# Altium integrated library Lattice CPLD ispMACH.IntLib: 663 symbols (part 33 of 48)
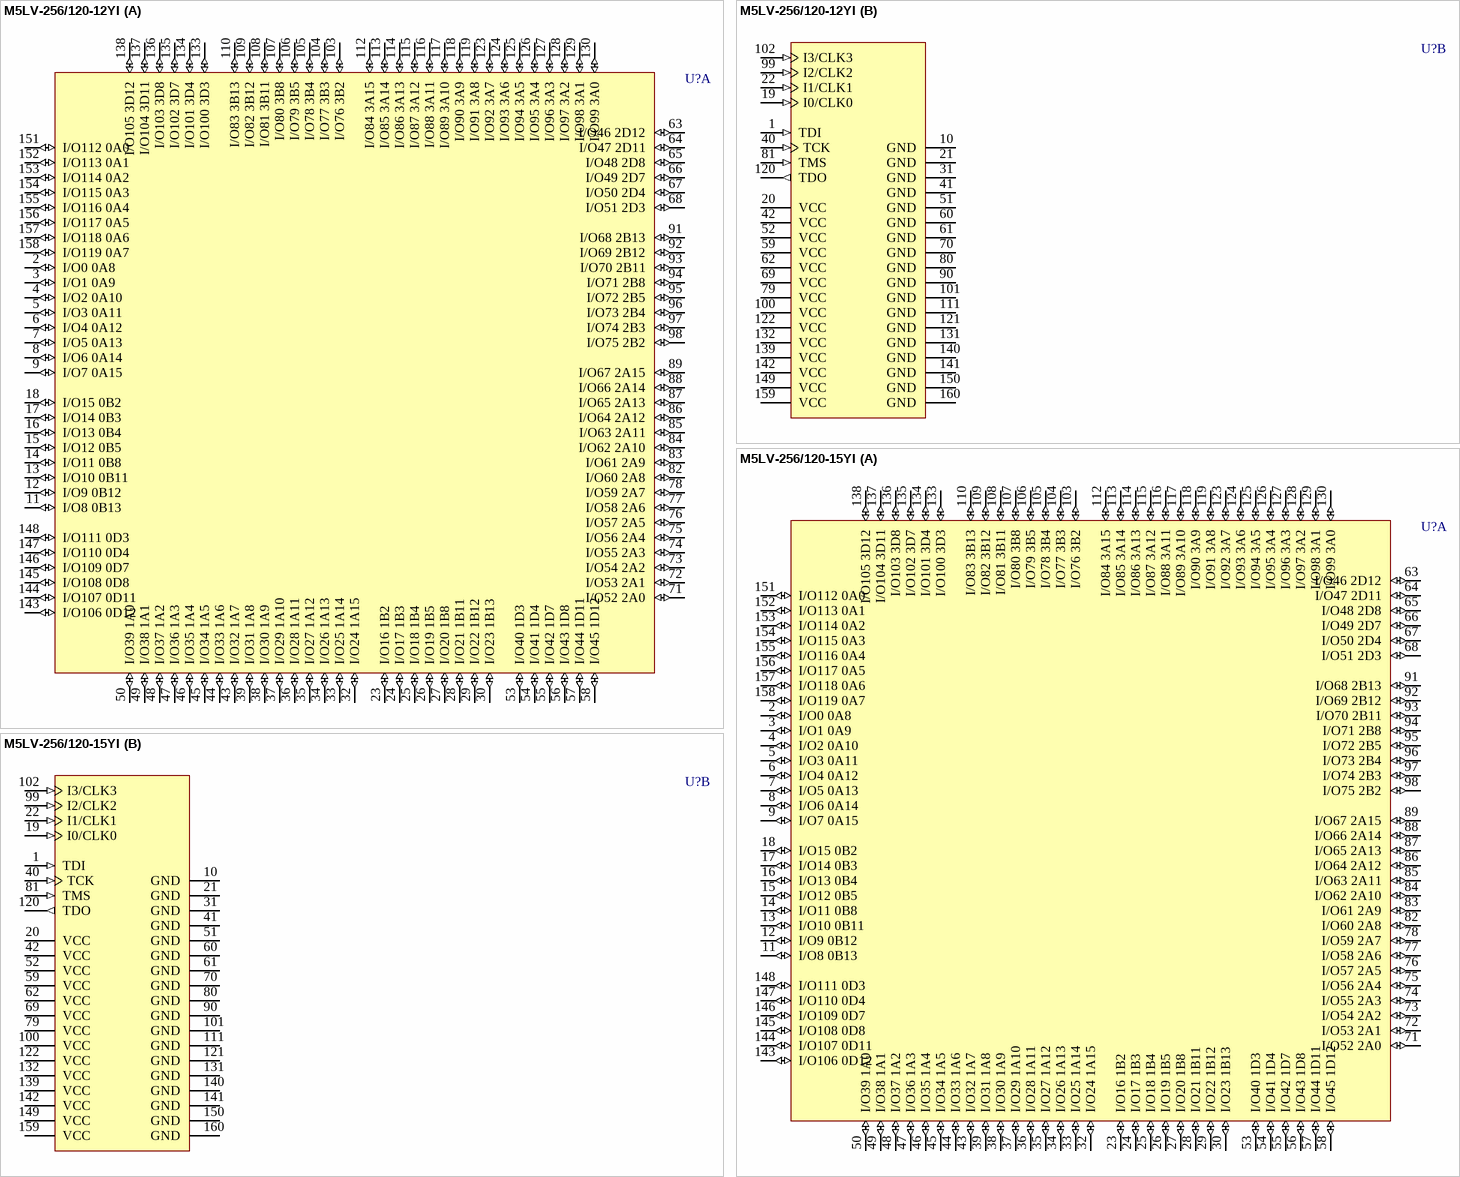
[diagram p338: symbols M5LV-256/120-12YI to M5LV-256/120-15YI]

## M5LV-256/120-12YI
designator U?
High-Density and High-I/O Complex PLD; Published: 23-Sep-2002; LatestRevisionDate: 13-Apr-2006; LatestRevisionNote: IPC-7351 Footprint Added.; DatasheetVersion: Sep-2000; PackageVersion: pkg_32, Aug-2005; PackageReference: PQFP160; Publisher: Altium Limited; PackageDescription: 160-Pin Quad Flat Pack 0.65 mm Pitch; Code_IPC: QFP65P3120X3120-160; ComponentLink1Description: Manufacturer Link; ComponentLink1URL: http://www.latticesemi.com/products/mature/index.cfm; ComponentLink2Description: Datasheet; ComponentLink2URL: http://www.latticesemi.com/lit/docs/datasheets/cpld/mach5.pdf
footprint PQFP160_N (QFP, 160-Leads, Body 28 x 28mm, Pitch 0.65mm, IPC Medium Density)
footprint PQFP160_L (QFP, 160-Leads, Body 28 x 28mm, Pitch 0.65mm, IPC High Density)
footprint PQFP160_M (QFP, 160-Leads, Body 28 x 28mm, Pitch 0.65mm, IPC Low Density)
3D model M5LV-PQFP160 (160-Pin Quad Flat Pack 0.65 mm Pitch)
part A pins: 2 I/O0 0A8 (io), 3 I/O1 0A9 (io), 4 I/O2 0A10 (io), 5 I/O3 0A11 (io), 6 I/O4 0A12 (io), 7 I/O5 0A13 (io), 8 I/O6 0A14 (io), 9 I/O7 0A15 (io), 11 I/O8 0B13 (io), 12 I/O9 0B12 (io), 13 I/O10 0B11 (io), 14 I/O11 0B8 (io), 15 I/O12 0B5 (io), 16 I/O13 0B4 (io), 17 I/O14 0B3 (io), 18 I/O15 0B2 (io), 23 I/O16 1B2 (io), 24 I/O17 1B3 (io), 25 I/O18 1B4 (io), 26 I/O19 1B5 (io), 27 I/O20 1B8 (io), 28 I/O21 1B11 (io), 29 I/O22 1B12 (io), 30 I/O23 1B13 (io), 32 I/O24 1A15 (io), 33 I/O25 1A14 (io), 34 I/O26 1A13 (io), 35 I/O27 1A12 (io), 36 I/O28 1A11 (io), 37 I/O29 1A10 (io), 38 I/O30 1A9 (io), 39 I/O31 1A8 (io), 43 I/O32 1A7 (io), 44 I/O33 1A6 (io), 45 I/O34 1A5 (io), 46 I/O35 1A4 (io), 47 I/O36 1A3 (io), 48 I/O37 1A2 (io), 49 I/O38 1A1 (io), 50 I/O39 1A0 (io), 53 I/O40 1D3 (io), 54 I/O41 1D4 (io), 55 I/O42 1D7 (io), 56 I/O43 1D8 (io), 57 I/O44 1D11 (io), 58 I/O45 1D12 (io), 63 I/O46 2D12 (io), 64 I/O47 2D11 (io), 65 I/O48 2D8 (io), 66 I/O49 2D7 (io), 67 I/O50 2D4 (io), 68 I/O51 2D3 (io), 71 I/O52 2A0 (io), 72 I/O53 2A1 (io), 73 I/O54 2A2 (io), 74 I/O55 2A3 (io), 75 I/O56 2A4 (io), 76 I/O57 2A5 (io), 77 I/O58 2A6 (io), 78 I/O59 2A7 (io), 82 I/O60 2A8 (io), 83 I/O61 2A9 (io), 84 I/O62 2A10 (io), 85 I/O63 2A11 (io), 86 I/O64 2A12 (io), 87 I/O65 2A13 (io), 88 I/O66 2A14 (io), 89 I/O67 2A15 (io), 91 I/O68 2B13 (io), 92 I/O69 2B12 (io), 93 I/O70 2B11 (io), 94 I/O71 2B8 (io), 95 I/O72 2B5 (io), 96 I/O73 2B4 (io), 97 I/O74 2B3 (io), 98 I/O75 2B2 (io), 103 I/O76 3B2 (io), 104 I/O77 3B3 (io), 105 I/O78 3B4 (io), 106 I/O79 3B5 (io), 107 I/O80 3B8 (io), 108 I/O81 3B11 (io), 109 I/O82 3B12 (io), 110 I/O83 3B13 (io), 112 I/O84 3A15 (io), 113 I/O85 3A14 (io), 114 I/O86 3A13 (io), 115 I/O87 3A12 (io), 116 I/O88 3A11 (io), 117 I/O89 3A10 (io), 118 I/O90 3A9 (io), 119 I/O91 3A8 (io), 123 I/O92 3A7 (io), 124 I/O93 3A6 (io), 125 I/O94 3A5 (io), 126 I/O95 3A4 (io), 127 I/O96 3A3 (io), 128 I/O97 3A2 (io), 129 I/O98 3A1 (io), 130 I/O99 3A0 (io), 133 I/O100 3D3 (io), 134 I/O101 3D4 (io), 135 I/O102 3D7 (io), 136 I/O103 3D8 (io), 137 I/O104 3D11 (io), 138 I/O105 3D12 (io), 143 I/O106 0D12 (io), 144 I/O107 0D11 (io), 145 I/O108 0D8 (io), 146 I/O109 0D7 (io), 147 I/O110 0D4 (io), 148 I/O111 0D3 (io), 151 I/O112 0A0 (io), 152 I/O113 0A1 (io), 153 I/O114 0A2 (io), 154 I/O115 0A3 (io), 155 I/O116 0A4 (io), 156 I/O117 0A5 (io), 157 I/O118 0A6 (io), 158 I/O119 0A7 (io)
part B pins: 1 TDI (in), 10 GND (power), 19 I0/CLK0 (in), 20 VCC (power), 21 GND (power), 22 I1/CLK1 (in), 31 GND (power), 40 TCK (in), 41 GND (power), 42 VCC (power), 51 GND (power), 52 VCC (power), 59 VCC (power), 60 GND (power), 61 GND (power), 62 VCC (power), 69 VCC (power), 70 GND (power), 79 VCC (power), 80 GND (power), 81 TMS (in), 90 GND (power), 99 I2/CLK2 (in), 100 VCC (power), 101 GND (power), 102 I3/CLK3 (in), 111 GND (power), 120 TDO (out), 121 GND (power), 122 VCC (power), 131 GND (power), 132 VCC (power), 139 VCC (power), 140 GND (power), 141 GND (power), 142 VCC (power), 149 VCC (power), 150 GND (power), 159 VCC (power), 160 GND (power)

## M5LV-256/120-15YI
designator U?
High-Density and High-I/O Complex PLD; Published: 23-Sep-2002; LatestRevisionDate: 13-Apr-2006; LatestRevisionNote: IPC-7351 Footprint Added.; DatasheetVersion: Sep-2000; PackageVersion: pkg_32, Aug-2005; PackageReference: PQFP160; Publisher: Altium Limited; PackageDescription: 160-Pin Quad Flat Pack 0.65 mm Pitch; Code_IPC: QFP65P3120X3120-160; ComponentLink1Description: Manufacturer Link; ComponentLink1URL: http://www.latticesemi.com/products/mature/index.cfm; ComponentLink2Description: Datasheet; ComponentLink2URL: http://www.latticesemi.com/lit/docs/datasheets/cpld/mach5.pdf
footprint PQFP160_N (QFP, 160-Leads, Body 28 x 28mm, Pitch 0.65mm, IPC Medium Density)
footprint PQFP160_L (QFP, 160-Leads, Body 28 x 28mm, Pitch 0.65mm, IPC High Density)
footprint PQFP160_M (QFP, 160-Leads, Body 28 x 28mm, Pitch 0.65mm, IPC Low Density)
3D model M5LV-PQFP160 (160-Pin Quad Flat Pack 0.65 mm Pitch)
part A pins: 2 I/O0 0A8 (io), 3 I/O1 0A9 (io), 4 I/O2 0A10 (io), 5 I/O3 0A11 (io), 6 I/O4 0A12 (io), 7 I/O5 0A13 (io), 8 I/O6 0A14 (io), 9 I/O7 0A15 (io), 11 I/O8 0B13 (io), 12 I/O9 0B12 (io), 13 I/O10 0B11 (io), 14 I/O11 0B8 (io), 15 I/O12 0B5 (io), 16 I/O13 0B4 (io), 17 I/O14 0B3 (io), 18 I/O15 0B2 (io), 23 I/O16 1B2 (io), 24 I/O17 1B3 (io), 25 I/O18 1B4 (io), 26 I/O19 1B5 (io), 27 I/O20 1B8 (io), 28 I/O21 1B11 (io), 29 I/O22 1B12 (io), 30 I/O23 1B13 (io), 32 I/O24 1A15 (io), 33 I/O25 1A14 (io), 34 I/O26 1A13 (io), 35 I/O27 1A12 (io), 36 I/O28 1A11 (io), 37 I/O29 1A10 (io), 38 I/O30 1A9 (io), 39 I/O31 1A8 (io), 43 I/O32 1A7 (io), 44 I/O33 1A6 (io), 45 I/O34 1A5 (io), 46 I/O35 1A4 (io), 47 I/O36 1A3 (io), 48 I/O37 1A2 (io), 49 I/O38 1A1 (io), 50 I/O39 1A0 (io), 53 I/O40 1D3 (io), 54 I/O41 1D4 (io), 55 I/O42 1D7 (io), 56 I/O43 1D8 (io), 57 I/O44 1D11 (io), 58 I/O45 1D12 (io), 63 I/O46 2D12 (io), 64 I/O47 2D11 (io), 65 I/O48 2D8 (io), 66 I/O49 2D7 (io), 67 I/O50 2D4 (io), 68 I/O51 2D3 (io), 71 I/O52 2A0 (io), 72 I/O53 2A1 (io), 73 I/O54 2A2 (io), 74 I/O55 2A3 (io), 75 I/O56 2A4 (io), 76 I/O57 2A5 (io), 77 I/O58 2A6 (io), 78 I/O59 2A7 (io), 82 I/O60 2A8 (io), 83 I/O61 2A9 (io), 84 I/O62 2A10 (io), 85 I/O63 2A11 (io), 86 I/O64 2A12 (io), 87 I/O65 2A13 (io), 88 I/O66 2A14 (io), 89 I/O67 2A15 (io), 91 I/O68 2B13 (io), 92 I/O69 2B12 (io), 93 I/O70 2B11 (io), 94 I/O71 2B8 (io), 95 I/O72 2B5 (io), 96 I/O73 2B4 (io), 97 I/O74 2B3 (io), 98 I/O75 2B2 (io), 103 I/O76 3B2 (io), 104 I/O77 3B3 (io), 105 I/O78 3B4 (io), 106 I/O79 3B5 (io), 107 I/O80 3B8 (io), 108 I/O81 3B11 (io), 109 I/O82 3B12 (io), 110 I/O83 3B13 (io), 112 I/O84 3A15 (io), 113 I/O85 3A14 (io), 114 I/O86 3A13 (io), 115 I/O87 3A12 (io), 116 I/O88 3A11 (io), 117 I/O89 3A10 (io), 118 I/O90 3A9 (io), 119 I/O91 3A8 (io), 123 I/O92 3A7 (io), 124 I/O93 3A6 (io), 125 I/O94 3A5 (io), 126 I/O95 3A4 (io), 127 I/O96 3A3 (io), 128 I/O97 3A2 (io), 129 I/O98 3A1 (io), 130 I/O99 3A0 (io), 133 I/O100 3D3 (io), 134 I/O101 3D4 (io), 135 I/O102 3D7 (io), 136 I/O103 3D8 (io), 137 I/O104 3D11 (io), 138 I/O105 3D12 (io), 143 I/O106 0D12 (io), 144 I/O107 0D11 (io), 145 I/O108 0D8 (io), 146 I/O109 0D7 (io), 147 I/O110 0D4 (io), 148 I/O111 0D3 (io), 151 I/O112 0A0 (io), 152 I/O113 0A1 (io), 153 I/O114 0A2 (io), 154 I/O115 0A3 (io), 155 I/O116 0A4 (io), 156 I/O117 0A5 (io), 157 I/O118 0A6 (io), 158 I/O119 0A7 (io)
part B pins: 1 TDI (in), 10 GND (power), 19 I0/CLK0 (in), 20 VCC (power), 21 GND (power), 22 I1/CLK1 (in), 31 GND (power), 40 TCK (in), 41 GND (power), 42 VCC (power), 51 GND (power), 52 VCC (power), 59 VCC (power), 60 GND (power), 61 GND (power), 62 VCC (power), 69 VCC (power), 70 GND (power), 79 VCC (power), 80 GND (power), 81 TMS (in), 90 GND (power), 99 I2/CLK2 (in), 100 VCC (power), 101 GND (power), 102 I3/CLK3 (in), 111 GND (power), 120 TDO (out), 121 GND (power), 122 VCC (power), 131 GND (power), 132 VCC (power), 139 VCC (power), 140 GND (power), 141 GND (power), 142 VCC (power), 149 VCC (power), 150 GND (power), 159 VCC (power), 160 GND (power)

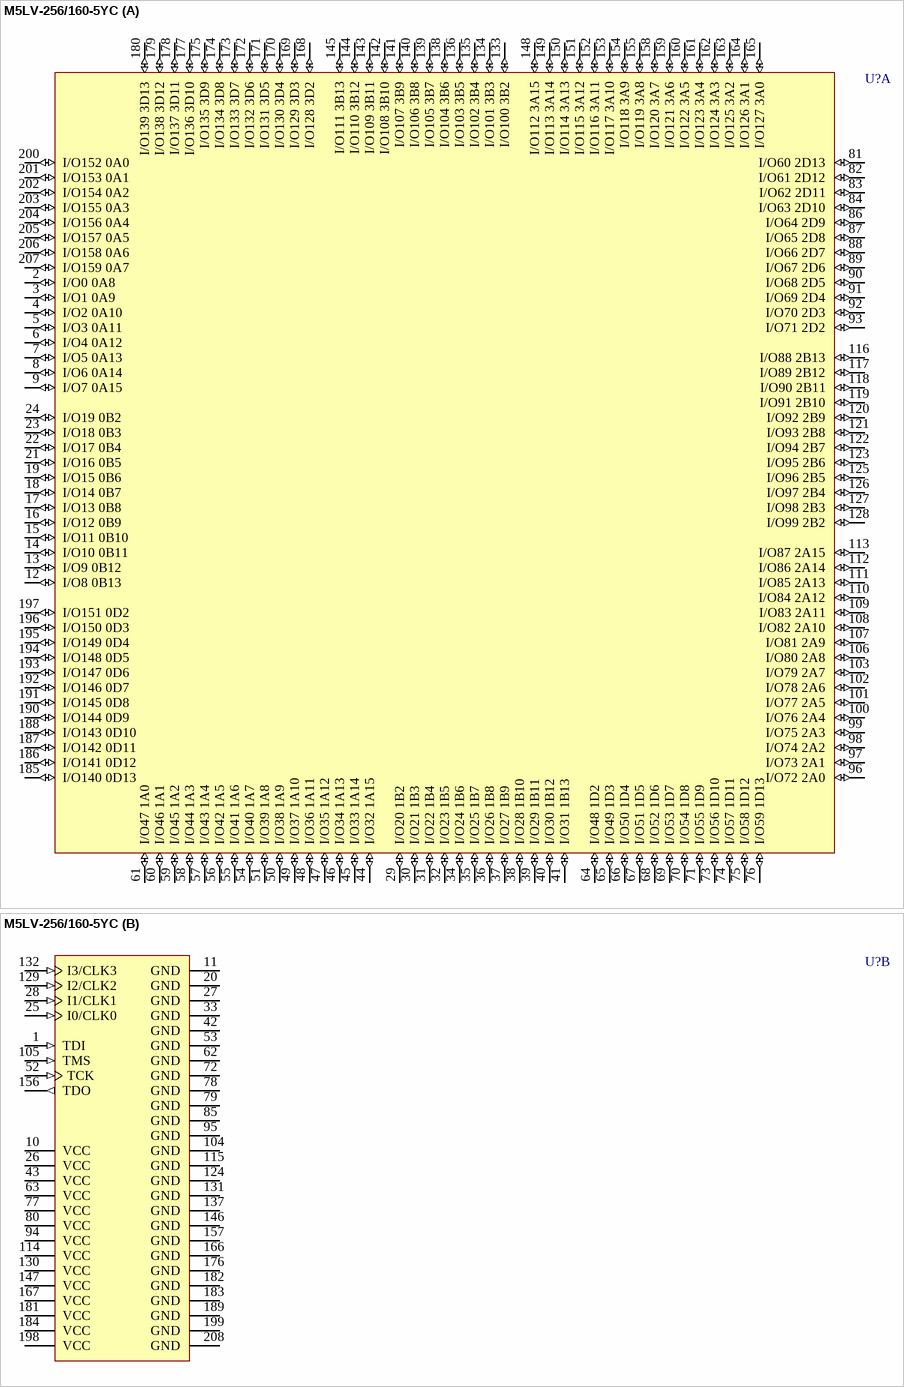
[diagram p191: symbol M5LV-256/160-5YC]

## M5LV-256/160-5YC
designator U?
High-Density and High-I/O Complex PLD; Published: 23-Sep-2002; LatestRevisionDate: 13-Apr-2006; LatestRevisionNote: IPC-7351 Footprint Added.; DatasheetVersion: Sep-2000; PackageVersion: pkg_32, Aug-2005; PackageReference: PQFP208; Publisher: Altium Limited; PackageDescription: 208-Pin Plastic Quad Flat Pack (PQFP208); Code_JEDEC: MO-143-FAI; ComponentLink1Description: Manufacturer Link; ComponentLink1URL: http://www.latticesemi.com/products/mature/index.cfm; ComponentLink2Description: Datasheet; ComponentLink2URL: http://www.latticesemi.com/lit/docs/datasheets/cpld/mach5.pdf
footprint PQFP208_N (Shrink QFP, 208-Leads, Body 28x28mm, Pitch 0.5mm, IPC Medium Density)
footprint PQFP208_L (Shrink QFP, 208-Leads, Body 28x28mm, Pitch 0.5mm, IPC High Density)
footprint PQFP208_M (Shrink QFP, 208-Leads, Body 28x28mm, Pitch 0.5mm, IPC Low Density)
3D model M5LV-PQFP208 (208-Pin Plastic Quad Flat Pack (PQFP208))
part A pins: 2 I/O0 0A8 (io), 3 I/O1 0A9 (io), 4 I/O2 0A10 (io), 5 I/O3 0A11 (io), 6 I/O4 0A12 (io), 7 I/O5 0A13 (io), 8 I/O6 0A14 (io), 9 I/O7 0A15 (io), 12 I/O8 0B13 (io), 13 I/O9 0B12 (io), 14 I/O10 0B11 (io), 15 I/O11 0B10 (io), 16 I/O12 0B9 (io), 17 I/O13 0B8 (io), 18 I/O14 0B7 (io), 19 I/O15 0B6 (io), 21 I/O16 0B5 (io), 22 I/O17 0B4 (io), 23 I/O18 0B3 (io), 24 I/O19 0B2 (io), 29 I/O20 1B2 (io), 30 I/O21 1B3 (io), 31 I/O22 1B4 (io), 32 I/O23 1B5 (io), 34 I/O24 1B6 (io), 35 I/O25 1B7 (io), 36 I/O26 1B8 (io), 37 I/O27 1B9 (io), 38 I/O28 1B10 (io), 39 I/O29 1B11 (io), 40 I/O30 1B12 (io), 41 I/O31 1B13 (io), 44 I/O32 1A15 (io), 45 I/O33 1A14 (io), 46 I/O34 1A13 (io), 47 I/O35 1A12 (io), 48 I/O36 1A11 (io), 49 I/O37 1A10 (io), 50 I/O38 1A9 (io), 51 I/O39 1A8 (io), 54 I/O40 1A7 (io), 55 I/O41 1A6 (io), 56 I/O42 1A5 (io), 57 I/O43 1A4 (io), 58 I/O44 1A3 (io), 59 I/O45 1A2 (io), 60 I/O46 1A1 (io), 61 I/O47 1A0 (io), 64 I/O48 1D2 (io), 65 I/O49 1D3 (io), 66 I/O50 1D4 (io), 67 I/O51 1D5 (io), 68 I/O52 1D6 (io), 69 I/O53 1D7 (io), 70 I/O54 1D8 (io), 71 I/O55 1D9 (io), 73 I/O56 1D10 (io), 74 I/O57 1D11 (io), 75 I/O58 1D12 (io), 76 I/O59 1D13 (io), 81 I/O60 2D13 (io), 82 I/O61 2D12 (io), 83 I/O62 2D11 (io), 84 I/O63 2D10 (io), 86 I/O64 2D9 (io), 87 I/O65 2D8 (io), 88 I/O66 2D7 (io), 89 I/O67 2D6 (io), 90 I/O68 2D5 (io), 91 I/O69 2D4 (io), 92 I/O70 2D3 (io), 93 I/O71 2D2 (io), 96 I/O72 2A0 (io), 97 I/O73 2A1 (io), 98 I/O74 2A2 (io), 99 I/O75 2A3 (io), 100 I/O76 2A4 (io), 101 I/O77 2A5 (io), 102 I/O78 2A6 (io), 103 I/O79 2A7 (io), 106 I/O80 2A8 (io), 107 I/O81 2A9 (io), 108 I/O82 2A10 (io), 109 I/O83 2A11 (io), 110 I/O84 2A12 (io), 111 I/O85 2A13 (io), 112 I/O86 2A14 (io), 113 I/O87 2A15 (io), 116 I/O88 2B13 (io), 117 I/O89 2B12 (io), 118 I/O90 2B11 (io), 119 I/O91 2B10 (io), 120 I/O92 2B9 (io), 121 I/O93 2B8 (io), 122 I/O94 2B7 (io), 123 I/O95 2B6 (io), 125 I/O96 2B5 (io), 126 I/O97 2B4 (io), 127 I/O98 2B3 (io), 128 I/O99 2B2 (io), 133 I/O100 3B2 (io), 134 I/O101 3B3 (io), 135 I/O102 3B4 (io), 136 I/O103 3B5 (io), 138 I/O104 3B6 (io), 139 I/O105 3B7 (io), 140 I/O106 3B8 (io), 141 I/O107 3B9 (io), 142 I/O108 3B10 (io), 143 I/O109 3B11 (io), 144 I/O110 3B12 (io), 145 I/O111 3B13 (io), 148 I/O112 3A15 (io), 149 I/O113 3A14 (io), 150 I/O114 3A13 (io), 151 I/O115 3A12 (io), 152 I/O116 3A11 (io), 153 I/O117 3A10 (io), 154 I/O118 3A9 (io), 155 I/O119 3A8 (io), 158 I/O120 3A7 (io), 159 I/O121 3A6 (io), 160 I/O122 3A5 (io), 161 I/O123 3A4 (io), 162 I/O124 3A3 (io), 163 I/O125 3A2 (io), 164 I/O126 3A1 (io), 165 I/O127 3A0 (io), 168 I/O128 3D2 (io), 169 I/O129 3D3 (io), 170 I/O130 3D4 (io), 171 I/O131 3D5 (io), 172 I/O132 3D6 (io), 173 I/O133 3D7 (io), 174 I/O134 3D8 (io), 175 I/O135 3D9 (io), 177 I/O136 3D10 (io), 178 I/O137 3D11 (io), 179 I/O138 3D12 (io), 180 I/O139 3D13 (io), 185 I/O140 0D13 (io), 186 I/O141 0D12 (io), 187 I/O142 0D11 (io), 188 I/O143 0D10 (io), 190 I/O144 0D9 (io), 191 I/O145 0D8 (io), 192 I/O146 0D7 (io), 193 I/O147 0D6 (io), 194 I/O148 0D5 (io), 195 I/O149 0D4 (io), 196 I/O150 0D3 (io), 197 I/O151 0D2 (io), 200 I/O152 0A0 (io), 201 I/O153 0A1 (io), 202 I/O154 0A2 (io), 203 I/O155 0A3 (io), 204 I/O156 0A4 (io), 205 I/O157 0A5 (io), 206 I/O158 0A6 (io), 207 I/O159 0A7 (io)
part B pins: 1 TDI (in), 10 VCC (power), 11 GND (power), 20 GND (power), 25 I0/CLK0 (in), 26 VCC (power), 27 GND (power), 28 I1/CLK1 (in), 33 GND (power), 42 GND (power), 43 VCC (power), 52 TCK (in), 53 GND (power), 62 GND (power), 63 VCC (power), 72 GND (power), 77 VCC (power), 78 GND (power), 79 GND (power), 80 VCC (power), 85 GND (power), 94 VCC (power), 95 GND (power), 104 GND (power), 105 TMS (in), 114 VCC (power), 115 GND (power), 124 GND (power), 129 I2/CLK2 (in), 130 VCC (power), 131 GND (power), 132 I3/CLK3 (in), 137 GND (power), 146 GND (power), 147 VCC (power), 156 TDO (out), 157 GND (power), 166 GND (power), 167 VCC (power), 176 GND (power), 181 VCC (power), 182 GND (power), 183 GND (power), 184 VCC (power), 189 GND (power), 198 VCC (power), 199 GND (power), 208 GND (power)

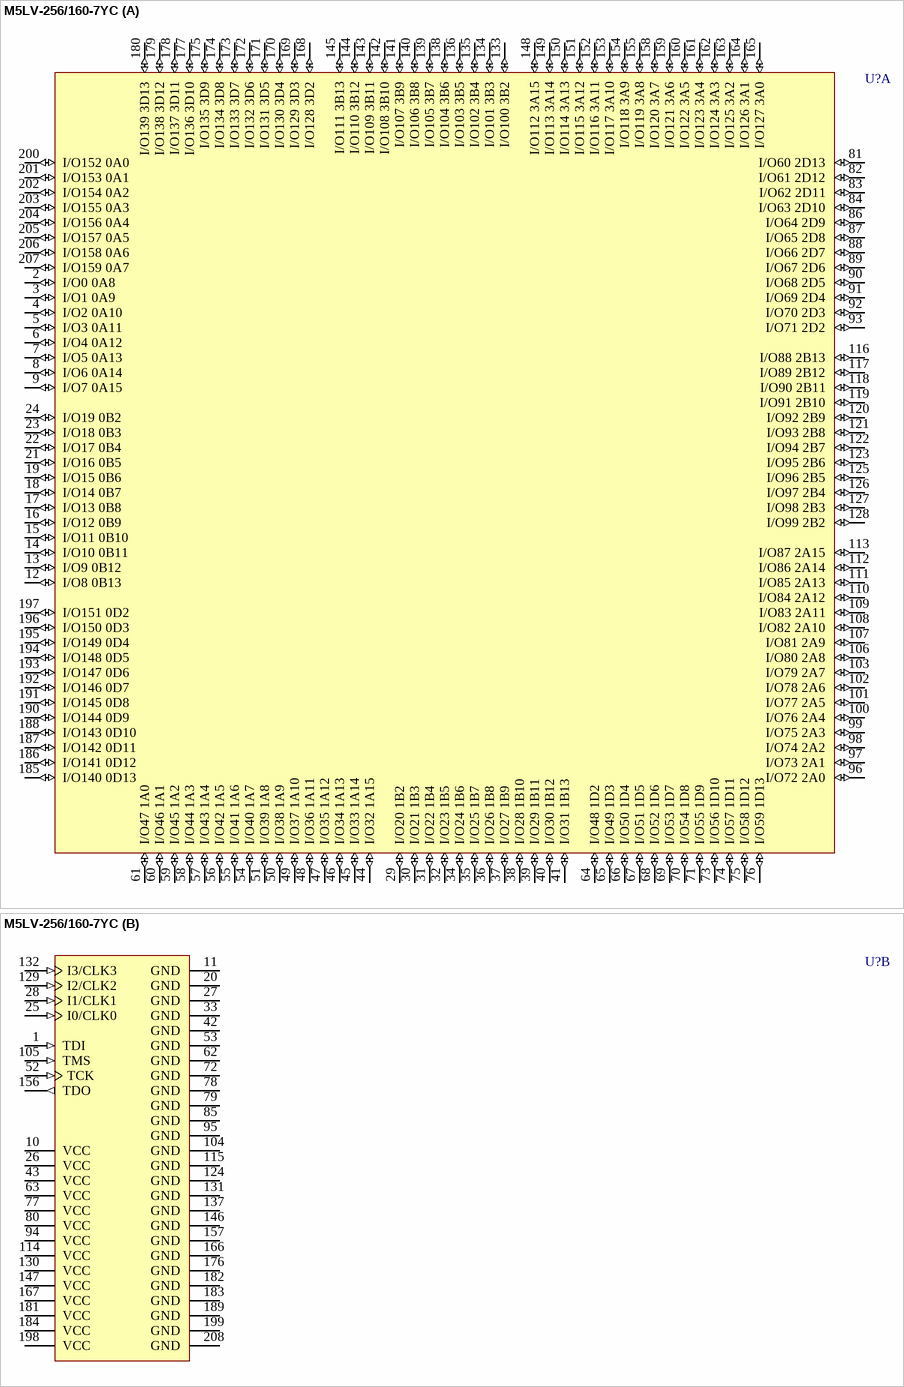
[diagram p192: symbol M5LV-256/160-7YC]

## M5LV-256/160-7YC
designator U?
High-Density and High-I/O Complex PLD; Published: 23-Sep-2002; LatestRevisionDate: 13-Apr-2006; LatestRevisionNote: IPC-7351 Footprint Added.; DatasheetVersion: Sep-2000; PackageVersion: pkg_32, Aug-2005; PackageReference: PQFP208; Publisher: Altium Limited; PackageDescription: 208-Pin Plastic Quad Flat Pack (PQFP208); Code_JEDEC: MO-143-FAI; ComponentLink1Description: Manufacturer Link; ComponentLink1URL: http://www.latticesemi.com/products/mature/index.cfm; ComponentLink2Description: Datasheet; ComponentLink2URL: http://www.latticesemi.com/lit/docs/datasheets/cpld/mach5.pdf
footprint PQFP208_N (Shrink QFP, 208-Leads, Body 28x28mm, Pitch 0.5mm, IPC Medium Density)
footprint PQFP208_L (Shrink QFP, 208-Leads, Body 28x28mm, Pitch 0.5mm, IPC High Density)
footprint PQFP208_M (Shrink QFP, 208-Leads, Body 28x28mm, Pitch 0.5mm, IPC Low Density)
3D model M5LV-PQFP208 (208-Pin Plastic Quad Flat Pack (PQFP208))
part A pins: 2 I/O0 0A8 (io), 3 I/O1 0A9 (io), 4 I/O2 0A10 (io), 5 I/O3 0A11 (io), 6 I/O4 0A12 (io), 7 I/O5 0A13 (io), 8 I/O6 0A14 (io), 9 I/O7 0A15 (io), 12 I/O8 0B13 (io), 13 I/O9 0B12 (io), 14 I/O10 0B11 (io), 15 I/O11 0B10 (io), 16 I/O12 0B9 (io), 17 I/O13 0B8 (io), 18 I/O14 0B7 (io), 19 I/O15 0B6 (io), 21 I/O16 0B5 (io), 22 I/O17 0B4 (io), 23 I/O18 0B3 (io), 24 I/O19 0B2 (io), 29 I/O20 1B2 (io), 30 I/O21 1B3 (io), 31 I/O22 1B4 (io), 32 I/O23 1B5 (io), 34 I/O24 1B6 (io), 35 I/O25 1B7 (io), 36 I/O26 1B8 (io), 37 I/O27 1B9 (io), 38 I/O28 1B10 (io), 39 I/O29 1B11 (io), 40 I/O30 1B12 (io), 41 I/O31 1B13 (io), 44 I/O32 1A15 (io), 45 I/O33 1A14 (io), 46 I/O34 1A13 (io), 47 I/O35 1A12 (io), 48 I/O36 1A11 (io), 49 I/O37 1A10 (io), 50 I/O38 1A9 (io), 51 I/O39 1A8 (io), 54 I/O40 1A7 (io), 55 I/O41 1A6 (io), 56 I/O42 1A5 (io), 57 I/O43 1A4 (io), 58 I/O44 1A3 (io), 59 I/O45 1A2 (io), 60 I/O46 1A1 (io), 61 I/O47 1A0 (io), 64 I/O48 1D2 (io), 65 I/O49 1D3 (io), 66 I/O50 1D4 (io), 67 I/O51 1D5 (io), 68 I/O52 1D6 (io), 69 I/O53 1D7 (io), 70 I/O54 1D8 (io), 71 I/O55 1D9 (io), 73 I/O56 1D10 (io), 74 I/O57 1D11 (io), 75 I/O58 1D12 (io), 76 I/O59 1D13 (io), 81 I/O60 2D13 (io), 82 I/O61 2D12 (io), 83 I/O62 2D11 (io), 84 I/O63 2D10 (io), 86 I/O64 2D9 (io), 87 I/O65 2D8 (io), 88 I/O66 2D7 (io), 89 I/O67 2D6 (io), 90 I/O68 2D5 (io), 91 I/O69 2D4 (io), 92 I/O70 2D3 (io), 93 I/O71 2D2 (io), 96 I/O72 2A0 (io), 97 I/O73 2A1 (io), 98 I/O74 2A2 (io), 99 I/O75 2A3 (io), 100 I/O76 2A4 (io), 101 I/O77 2A5 (io), 102 I/O78 2A6 (io), 103 I/O79 2A7 (io), 106 I/O80 2A8 (io), 107 I/O81 2A9 (io), 108 I/O82 2A10 (io), 109 I/O83 2A11 (io), 110 I/O84 2A12 (io), 111 I/O85 2A13 (io), 112 I/O86 2A14 (io), 113 I/O87 2A15 (io), 116 I/O88 2B13 (io), 117 I/O89 2B12 (io), 118 I/O90 2B11 (io), 119 I/O91 2B10 (io), 120 I/O92 2B9 (io), 121 I/O93 2B8 (io), 122 I/O94 2B7 (io), 123 I/O95 2B6 (io), 125 I/O96 2B5 (io), 126 I/O97 2B4 (io), 127 I/O98 2B3 (io), 128 I/O99 2B2 (io), 133 I/O100 3B2 (io), 134 I/O101 3B3 (io), 135 I/O102 3B4 (io), 136 I/O103 3B5 (io), 138 I/O104 3B6 (io), 139 I/O105 3B7 (io), 140 I/O106 3B8 (io), 141 I/O107 3B9 (io), 142 I/O108 3B10 (io), 143 I/O109 3B11 (io), 144 I/O110 3B12 (io), 145 I/O111 3B13 (io), 148 I/O112 3A15 (io), 149 I/O113 3A14 (io), 150 I/O114 3A13 (io), 151 I/O115 3A12 (io), 152 I/O116 3A11 (io), 153 I/O117 3A10 (io), 154 I/O118 3A9 (io), 155 I/O119 3A8 (io), 158 I/O120 3A7 (io), 159 I/O121 3A6 (io), 160 I/O122 3A5 (io), 161 I/O123 3A4 (io), 162 I/O124 3A3 (io), 163 I/O125 3A2 (io), 164 I/O126 3A1 (io), 165 I/O127 3A0 (io), 168 I/O128 3D2 (io), 169 I/O129 3D3 (io), 170 I/O130 3D4 (io), 171 I/O131 3D5 (io), 172 I/O132 3D6 (io), 173 I/O133 3D7 (io), 174 I/O134 3D8 (io), 175 I/O135 3D9 (io), 177 I/O136 3D10 (io), 178 I/O137 3D11 (io), 179 I/O138 3D12 (io), 180 I/O139 3D13 (io), 185 I/O140 0D13 (io), 186 I/O141 0D12 (io), 187 I/O142 0D11 (io), 188 I/O143 0D10 (io), 190 I/O144 0D9 (io), 191 I/O145 0D8 (io), 192 I/O146 0D7 (io), 193 I/O147 0D6 (io), 194 I/O148 0D5 (io), 195 I/O149 0D4 (io), 196 I/O150 0D3 (io), 197 I/O151 0D2 (io), 200 I/O152 0A0 (io), 201 I/O153 0A1 (io), 202 I/O154 0A2 (io), 203 I/O155 0A3 (io), 204 I/O156 0A4 (io), 205 I/O157 0A5 (io), 206 I/O158 0A6 (io), 207 I/O159 0A7 (io)
part B pins: 1 TDI (in), 10 VCC (power), 11 GND (power), 20 GND (power), 25 I0/CLK0 (in), 26 VCC (power), 27 GND (power), 28 I1/CLK1 (in), 33 GND (power), 42 GND (power), 43 VCC (power), 52 TCK (in), 53 GND (power), 62 GND (power), 63 VCC (power), 72 GND (power), 77 VCC (power), 78 GND (power), 79 GND (power), 80 VCC (power), 85 GND (power), 94 VCC (power), 95 GND (power), 104 GND (power), 105 TMS (in), 114 VCC (power), 115 GND (power), 124 GND (power), 129 I2/CLK2 (in), 130 VCC (power), 131 GND (power), 132 I3/CLK3 (in), 137 GND (power), 146 GND (power), 147 VCC (power), 156 TDO (out), 157 GND (power), 166 GND (power), 167 VCC (power), 176 GND (power), 181 VCC (power), 182 GND (power), 183 GND (power), 184 VCC (power), 189 GND (power), 198 VCC (power), 199 GND (power), 208 GND (power)

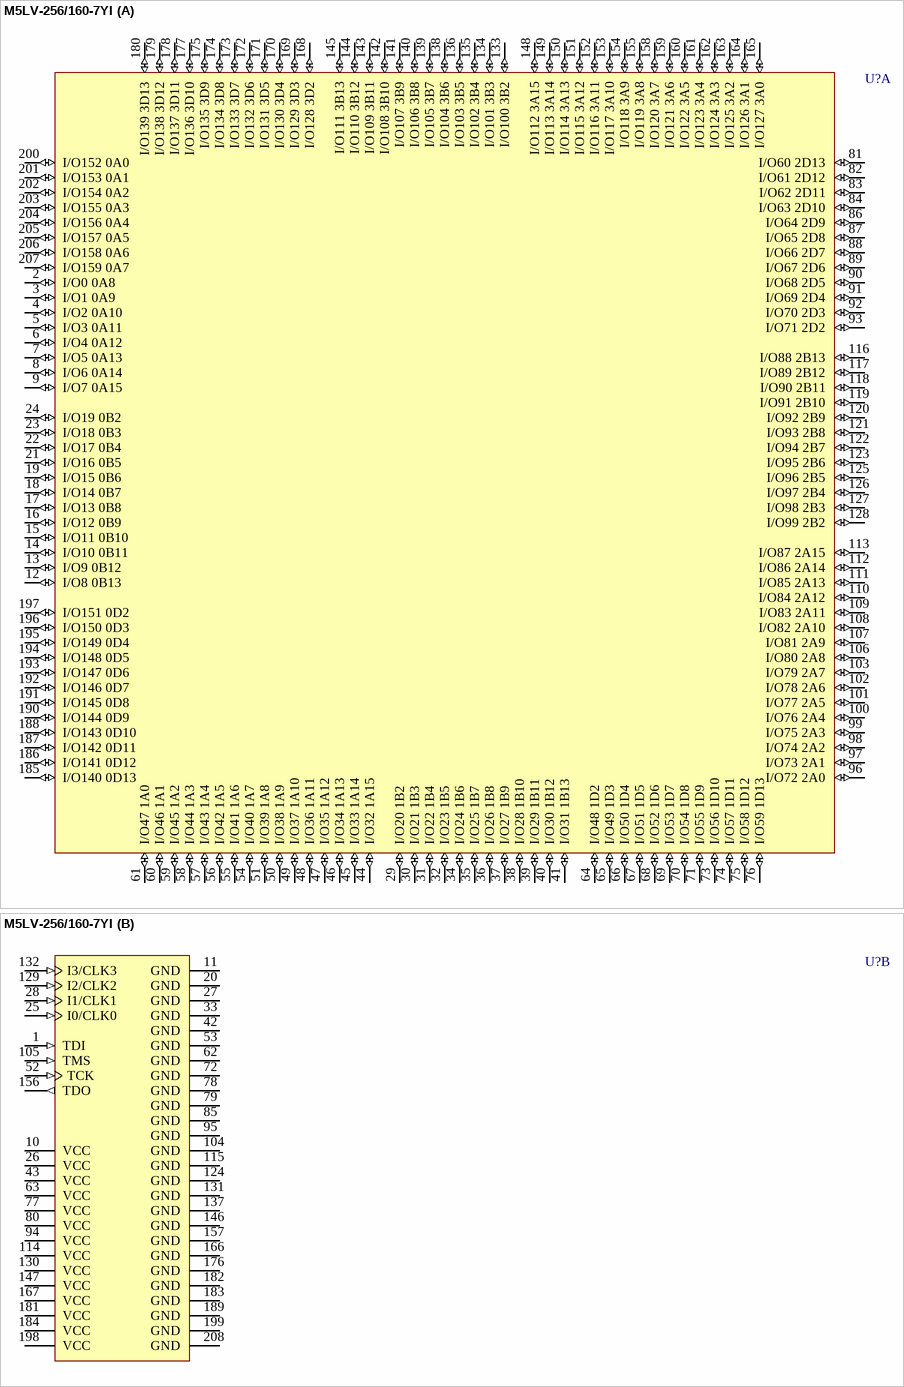
[diagram p193: symbol M5LV-256/160-7YI]

## M5LV-256/160-7YI
designator U?
High-Density and High-I/O Complex PLD; Published: 23-Sep-2002; LatestRevisionDate: 13-Apr-2006; LatestRevisionNote: IPC-7351 Footprint Added.; DatasheetVersion: Sep-2000; PackageVersion: pkg_32, Aug-2005; PackageReference: PQFP208; Publisher: Altium Limited; PackageDescription: 208-Pin Plastic Quad Flat Pack (PQFP208); Code_JEDEC: MO-143-FAI; ComponentLink1Description: Manufacturer Link; ComponentLink1URL: http://www.latticesemi.com/products/mature/index.cfm; ComponentLink2Description: Datasheet; ComponentLink2URL: http://www.latticesemi.com/lit/docs/datasheets/cpld/mach5.pdf
footprint PQFP208_N (Shrink QFP, 208-Leads, Body 28x28mm, Pitch 0.5mm, IPC Medium Density)
footprint PQFP208_L (Shrink QFP, 208-Leads, Body 28x28mm, Pitch 0.5mm, IPC High Density)
footprint PQFP208_M (Shrink QFP, 208-Leads, Body 28x28mm, Pitch 0.5mm, IPC Low Density)
3D model M5LV-PQFP208 (208-Pin Plastic Quad Flat Pack (PQFP208))
part A pins: 2 I/O0 0A8 (io), 3 I/O1 0A9 (io), 4 I/O2 0A10 (io), 5 I/O3 0A11 (io), 6 I/O4 0A12 (io), 7 I/O5 0A13 (io), 8 I/O6 0A14 (io), 9 I/O7 0A15 (io), 12 I/O8 0B13 (io), 13 I/O9 0B12 (io), 14 I/O10 0B11 (io), 15 I/O11 0B10 (io), 16 I/O12 0B9 (io), 17 I/O13 0B8 (io), 18 I/O14 0B7 (io), 19 I/O15 0B6 (io), 21 I/O16 0B5 (io), 22 I/O17 0B4 (io), 23 I/O18 0B3 (io), 24 I/O19 0B2 (io), 29 I/O20 1B2 (io), 30 I/O21 1B3 (io), 31 I/O22 1B4 (io), 32 I/O23 1B5 (io), 34 I/O24 1B6 (io), 35 I/O25 1B7 (io), 36 I/O26 1B8 (io), 37 I/O27 1B9 (io), 38 I/O28 1B10 (io), 39 I/O29 1B11 (io), 40 I/O30 1B12 (io), 41 I/O31 1B13 (io), 44 I/O32 1A15 (io), 45 I/O33 1A14 (io), 46 I/O34 1A13 (io), 47 I/O35 1A12 (io), 48 I/O36 1A11 (io), 49 I/O37 1A10 (io), 50 I/O38 1A9 (io), 51 I/O39 1A8 (io), 54 I/O40 1A7 (io), 55 I/O41 1A6 (io), 56 I/O42 1A5 (io), 57 I/O43 1A4 (io), 58 I/O44 1A3 (io), 59 I/O45 1A2 (io), 60 I/O46 1A1 (io), 61 I/O47 1A0 (io), 64 I/O48 1D2 (io), 65 I/O49 1D3 (io), 66 I/O50 1D4 (io), 67 I/O51 1D5 (io), 68 I/O52 1D6 (io), 69 I/O53 1D7 (io), 70 I/O54 1D8 (io), 71 I/O55 1D9 (io), 73 I/O56 1D10 (io), 74 I/O57 1D11 (io), 75 I/O58 1D12 (io), 76 I/O59 1D13 (io), 81 I/O60 2D13 (io), 82 I/O61 2D12 (io), 83 I/O62 2D11 (io), 84 I/O63 2D10 (io), 86 I/O64 2D9 (io), 87 I/O65 2D8 (io), 88 I/O66 2D7 (io), 89 I/O67 2D6 (io), 90 I/O68 2D5 (io), 91 I/O69 2D4 (io), 92 I/O70 2D3 (io), 93 I/O71 2D2 (io), 96 I/O72 2A0 (io), 97 I/O73 2A1 (io), 98 I/O74 2A2 (io), 99 I/O75 2A3 (io), 100 I/O76 2A4 (io), 101 I/O77 2A5 (io), 102 I/O78 2A6 (io), 103 I/O79 2A7 (io), 106 I/O80 2A8 (io), 107 I/O81 2A9 (io), 108 I/O82 2A10 (io), 109 I/O83 2A11 (io), 110 I/O84 2A12 (io), 111 I/O85 2A13 (io), 112 I/O86 2A14 (io), 113 I/O87 2A15 (io), 116 I/O88 2B13 (io), 117 I/O89 2B12 (io), 118 I/O90 2B11 (io), 119 I/O91 2B10 (io), 120 I/O92 2B9 (io), 121 I/O93 2B8 (io), 122 I/O94 2B7 (io), 123 I/O95 2B6 (io), 125 I/O96 2B5 (io), 126 I/O97 2B4 (io), 127 I/O98 2B3 (io), 128 I/O99 2B2 (io), 133 I/O100 3B2 (io), 134 I/O101 3B3 (io), 135 I/O102 3B4 (io), 136 I/O103 3B5 (io), 138 I/O104 3B6 (io), 139 I/O105 3B7 (io), 140 I/O106 3B8 (io), 141 I/O107 3B9 (io), 142 I/O108 3B10 (io), 143 I/O109 3B11 (io), 144 I/O110 3B12 (io), 145 I/O111 3B13 (io), 148 I/O112 3A15 (io), 149 I/O113 3A14 (io), 150 I/O114 3A13 (io), 151 I/O115 3A12 (io), 152 I/O116 3A11 (io), 153 I/O117 3A10 (io), 154 I/O118 3A9 (io), 155 I/O119 3A8 (io), 158 I/O120 3A7 (io), 159 I/O121 3A6 (io), 160 I/O122 3A5 (io), 161 I/O123 3A4 (io), 162 I/O124 3A3 (io), 163 I/O125 3A2 (io), 164 I/O126 3A1 (io), 165 I/O127 3A0 (io), 168 I/O128 3D2 (io), 169 I/O129 3D3 (io), 170 I/O130 3D4 (io), 171 I/O131 3D5 (io), 172 I/O132 3D6 (io), 173 I/O133 3D7 (io), 174 I/O134 3D8 (io), 175 I/O135 3D9 (io), 177 I/O136 3D10 (io), 178 I/O137 3D11 (io), 179 I/O138 3D12 (io), 180 I/O139 3D13 (io), 185 I/O140 0D13 (io), 186 I/O141 0D12 (io), 187 I/O142 0D11 (io), 188 I/O143 0D10 (io), 190 I/O144 0D9 (io), 191 I/O145 0D8 (io), 192 I/O146 0D7 (io), 193 I/O147 0D6 (io), 194 I/O148 0D5 (io), 195 I/O149 0D4 (io), 196 I/O150 0D3 (io), 197 I/O151 0D2 (io), 200 I/O152 0A0 (io), 201 I/O153 0A1 (io), 202 I/O154 0A2 (io), 203 I/O155 0A3 (io), 204 I/O156 0A4 (io), 205 I/O157 0A5 (io), 206 I/O158 0A6 (io), 207 I/O159 0A7 (io)
part B pins: 1 TDI (in), 10 VCC (power), 11 GND (power), 20 GND (power), 25 I0/CLK0 (in), 26 VCC (power), 27 GND (power), 28 I1/CLK1 (in), 33 GND (power), 42 GND (power), 43 VCC (power), 52 TCK (in), 53 GND (power), 62 GND (power), 63 VCC (power), 72 GND (power), 77 VCC (power), 78 GND (power), 79 GND (power), 80 VCC (power), 85 GND (power), 94 VCC (power), 95 GND (power), 104 GND (power), 105 TMS (in), 114 VCC (power), 115 GND (power), 124 GND (power), 129 I2/CLK2 (in), 130 VCC (power), 131 GND (power), 132 I3/CLK3 (in), 137 GND (power), 146 GND (power), 147 VCC (power), 156 TDO (out), 157 GND (power), 166 GND (power), 167 VCC (power), 176 GND (power), 181 VCC (power), 182 GND (power), 183 GND (power), 184 VCC (power), 189 GND (power), 198 VCC (power), 199 GND (power), 208 GND (power)

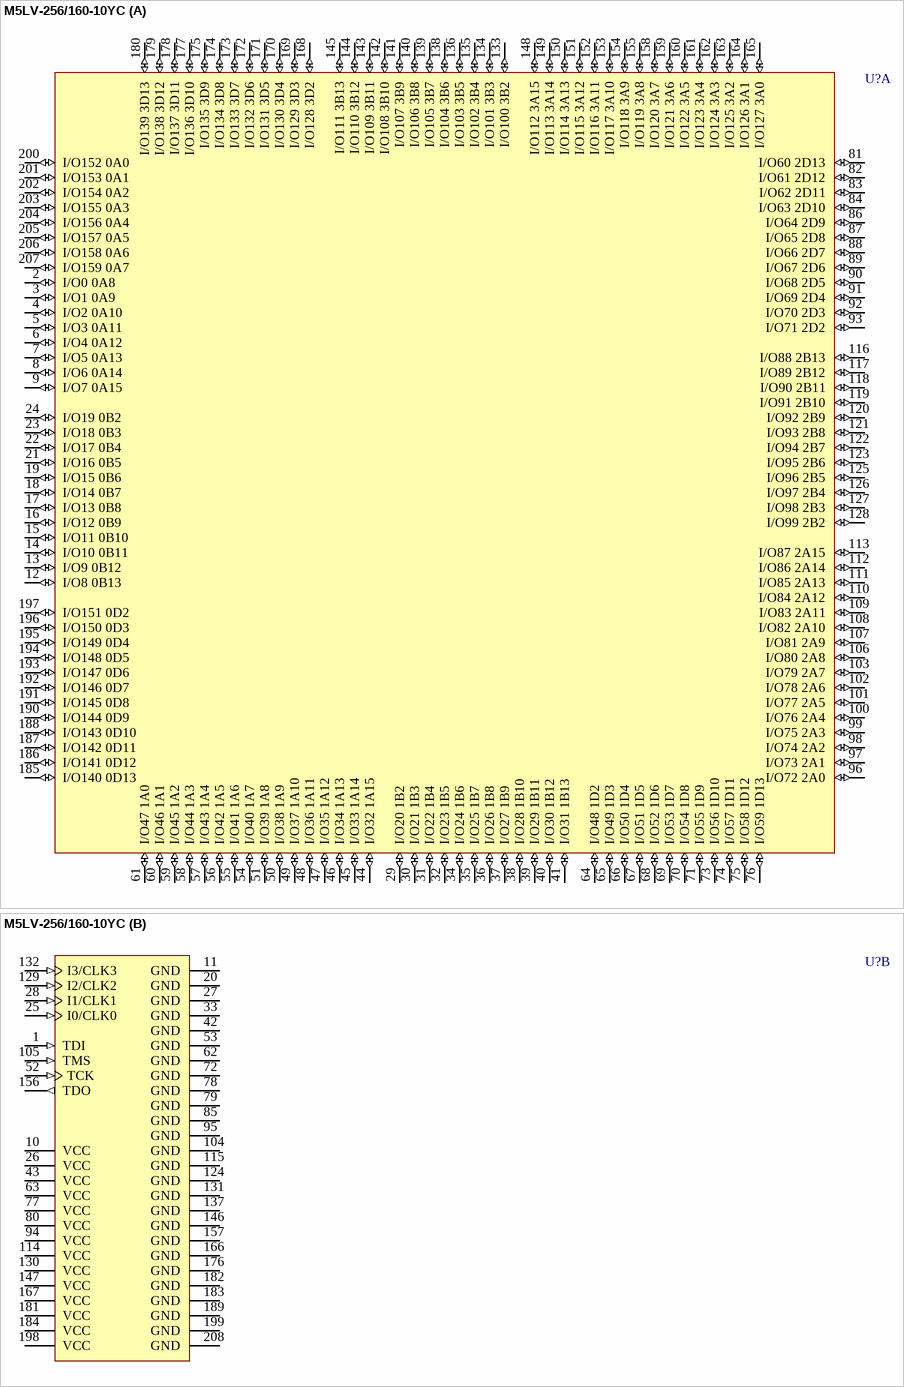
[diagram p194: symbol M5LV-256/160-10YC]

## M5LV-256/160-10YC
designator U?
High-Density and High-I/O Complex PLD; Published: 23-Sep-2002; LatestRevisionDate: 13-Apr-2006; LatestRevisionNote: IPC-7351 Footprint Added.; DatasheetVersion: Sep-2000; PackageVersion: pkg_32, Aug-2005; PackageReference: PQFP208; Publisher: Altium Limited; PackageDescription: 208-Pin Plastic Quad Flat Pack (PQFP208); Code_JEDEC: MO-143-FAI; ComponentLink1Description: Manufacturer Link; ComponentLink1URL: http://www.latticesemi.com/products/mature/index.cfm; ComponentLink2Description: Datasheet; ComponentLink2URL: http://www.latticesemi.com/lit/docs/datasheets/cpld/mach5.pdf
footprint PQFP208_N (Shrink QFP, 208-Leads, Body 28x28mm, Pitch 0.5mm, IPC Medium Density)
footprint PQFP208_L (Shrink QFP, 208-Leads, Body 28x28mm, Pitch 0.5mm, IPC High Density)
footprint PQFP208_M (Shrink QFP, 208-Leads, Body 28x28mm, Pitch 0.5mm, IPC Low Density)
3D model M5LV-PQFP208 (208-Pin Plastic Quad Flat Pack (PQFP208))
part A pins: 2 I/O0 0A8 (io), 3 I/O1 0A9 (io), 4 I/O2 0A10 (io), 5 I/O3 0A11 (io), 6 I/O4 0A12 (io), 7 I/O5 0A13 (io), 8 I/O6 0A14 (io), 9 I/O7 0A15 (io), 12 I/O8 0B13 (io), 13 I/O9 0B12 (io), 14 I/O10 0B11 (io), 15 I/O11 0B10 (io), 16 I/O12 0B9 (io), 17 I/O13 0B8 (io), 18 I/O14 0B7 (io), 19 I/O15 0B6 (io), 21 I/O16 0B5 (io), 22 I/O17 0B4 (io), 23 I/O18 0B3 (io), 24 I/O19 0B2 (io), 29 I/O20 1B2 (io), 30 I/O21 1B3 (io), 31 I/O22 1B4 (io), 32 I/O23 1B5 (io), 34 I/O24 1B6 (io), 35 I/O25 1B7 (io), 36 I/O26 1B8 (io), 37 I/O27 1B9 (io), 38 I/O28 1B10 (io), 39 I/O29 1B11 (io), 40 I/O30 1B12 (io), 41 I/O31 1B13 (io), 44 I/O32 1A15 (io), 45 I/O33 1A14 (io), 46 I/O34 1A13 (io), 47 I/O35 1A12 (io), 48 I/O36 1A11 (io), 49 I/O37 1A10 (io), 50 I/O38 1A9 (io), 51 I/O39 1A8 (io), 54 I/O40 1A7 (io), 55 I/O41 1A6 (io), 56 I/O42 1A5 (io), 57 I/O43 1A4 (io), 58 I/O44 1A3 (io), 59 I/O45 1A2 (io), 60 I/O46 1A1 (io), 61 I/O47 1A0 (io), 64 I/O48 1D2 (io), 65 I/O49 1D3 (io), 66 I/O50 1D4 (io), 67 I/O51 1D5 (io), 68 I/O52 1D6 (io), 69 I/O53 1D7 (io), 70 I/O54 1D8 (io), 71 I/O55 1D9 (io), 73 I/O56 1D10 (io), 74 I/O57 1D11 (io), 75 I/O58 1D12 (io), 76 I/O59 1D13 (io), 81 I/O60 2D13 (io), 82 I/O61 2D12 (io), 83 I/O62 2D11 (io), 84 I/O63 2D10 (io), 86 I/O64 2D9 (io), 87 I/O65 2D8 (io), 88 I/O66 2D7 (io), 89 I/O67 2D6 (io), 90 I/O68 2D5 (io), 91 I/O69 2D4 (io), 92 I/O70 2D3 (io), 93 I/O71 2D2 (io), 96 I/O72 2A0 (io), 97 I/O73 2A1 (io), 98 I/O74 2A2 (io), 99 I/O75 2A3 (io), 100 I/O76 2A4 (io), 101 I/O77 2A5 (io), 102 I/O78 2A6 (io), 103 I/O79 2A7 (io), 106 I/O80 2A8 (io), 107 I/O81 2A9 (io), 108 I/O82 2A10 (io), 109 I/O83 2A11 (io), 110 I/O84 2A12 (io), 111 I/O85 2A13 (io), 112 I/O86 2A14 (io), 113 I/O87 2A15 (io), 116 I/O88 2B13 (io), 117 I/O89 2B12 (io), 118 I/O90 2B11 (io), 119 I/O91 2B10 (io), 120 I/O92 2B9 (io), 121 I/O93 2B8 (io), 122 I/O94 2B7 (io), 123 I/O95 2B6 (io), 125 I/O96 2B5 (io), 126 I/O97 2B4 (io), 127 I/O98 2B3 (io), 128 I/O99 2B2 (io), 133 I/O100 3B2 (io), 134 I/O101 3B3 (io), 135 I/O102 3B4 (io), 136 I/O103 3B5 (io), 138 I/O104 3B6 (io), 139 I/O105 3B7 (io), 140 I/O106 3B8 (io), 141 I/O107 3B9 (io), 142 I/O108 3B10 (io), 143 I/O109 3B11 (io), 144 I/O110 3B12 (io), 145 I/O111 3B13 (io), 148 I/O112 3A15 (io), 149 I/O113 3A14 (io), 150 I/O114 3A13 (io), 151 I/O115 3A12 (io), 152 I/O116 3A11 (io), 153 I/O117 3A10 (io), 154 I/O118 3A9 (io), 155 I/O119 3A8 (io), 158 I/O120 3A7 (io), 159 I/O121 3A6 (io), 160 I/O122 3A5 (io), 161 I/O123 3A4 (io), 162 I/O124 3A3 (io), 163 I/O125 3A2 (io), 164 I/O126 3A1 (io), 165 I/O127 3A0 (io), 168 I/O128 3D2 (io), 169 I/O129 3D3 (io), 170 I/O130 3D4 (io), 171 I/O131 3D5 (io), 172 I/O132 3D6 (io), 173 I/O133 3D7 (io), 174 I/O134 3D8 (io), 175 I/O135 3D9 (io), 177 I/O136 3D10 (io), 178 I/O137 3D11 (io), 179 I/O138 3D12 (io), 180 I/O139 3D13 (io), 185 I/O140 0D13 (io), 186 I/O141 0D12 (io), 187 I/O142 0D11 (io), 188 I/O143 0D10 (io), 190 I/O144 0D9 (io), 191 I/O145 0D8 (io), 192 I/O146 0D7 (io), 193 I/O147 0D6 (io), 194 I/O148 0D5 (io), 195 I/O149 0D4 (io), 196 I/O150 0D3 (io), 197 I/O151 0D2 (io), 200 I/O152 0A0 (io), 201 I/O153 0A1 (io), 202 I/O154 0A2 (io), 203 I/O155 0A3 (io), 204 I/O156 0A4 (io), 205 I/O157 0A5 (io), 206 I/O158 0A6 (io), 207 I/O159 0A7 (io)
part B pins: 1 TDI (in), 10 VCC (power), 11 GND (power), 20 GND (power), 25 I0/CLK0 (in), 26 VCC (power), 27 GND (power), 28 I1/CLK1 (in), 33 GND (power), 42 GND (power), 43 VCC (power), 52 TCK (in), 53 GND (power), 62 GND (power), 63 VCC (power), 72 GND (power), 77 VCC (power), 78 GND (power), 79 GND (power), 80 VCC (power), 85 GND (power), 94 VCC (power), 95 GND (power), 104 GND (power), 105 TMS (in), 114 VCC (power), 115 GND (power), 124 GND (power), 129 I2/CLK2 (in), 130 VCC (power), 131 GND (power), 132 I3/CLK3 (in), 137 GND (power), 146 GND (power), 147 VCC (power), 156 TDO (out), 157 GND (power), 166 GND (power), 167 VCC (power), 176 GND (power), 181 VCC (power), 182 GND (power), 183 GND (power), 184 VCC (power), 189 GND (power), 198 VCC (power), 199 GND (power), 208 GND (power)

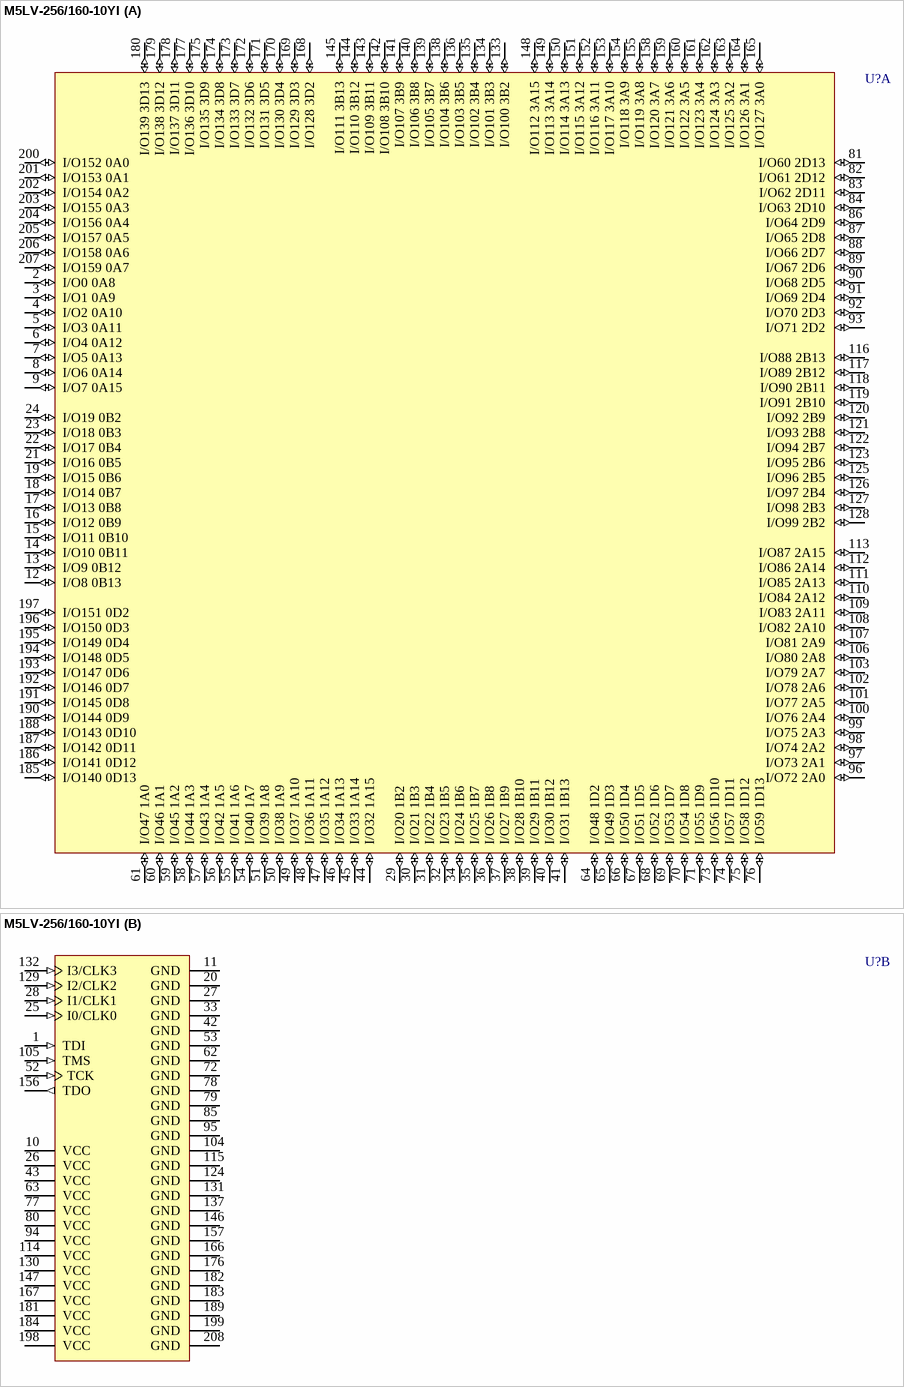
[diagram p195: symbol M5LV-256/160-10YI]

## M5LV-256/160-10YI
designator U?
High-Density and High-I/O Complex PLD; Published: 23-Sep-2002; LatestRevisionDate: 13-Apr-2006; LatestRevisionNote: IPC-7351 Footprint Added.; DatasheetVersion: Sep-2000; PackageVersion: pkg_32, Aug-2005; PackageReference: PQFP208; Publisher: Altium Limited; PackageDescription: 208-Pin Plastic Quad Flat Pack (PQFP208); Code_JEDEC: MO-143-FAI; ComponentLink1Description: Manufacturer Link; ComponentLink1URL: http://www.latticesemi.com/products/mature/index.cfm; ComponentLink2Description: Datasheet; ComponentLink2URL: http://www.latticesemi.com/lit/docs/datasheets/cpld/mach5.pdf
footprint PQFP208_N (Shrink QFP, 208-Leads, Body 28x28mm, Pitch 0.5mm, IPC Medium Density)
footprint PQFP208_L (Shrink QFP, 208-Leads, Body 28x28mm, Pitch 0.5mm, IPC High Density)
footprint PQFP208_M (Shrink QFP, 208-Leads, Body 28x28mm, Pitch 0.5mm, IPC Low Density)
3D model M5LV-PQFP208 (208-Pin Plastic Quad Flat Pack (PQFP208))
part A pins: 2 I/O0 0A8 (io), 3 I/O1 0A9 (io), 4 I/O2 0A10 (io), 5 I/O3 0A11 (io), 6 I/O4 0A12 (io), 7 I/O5 0A13 (io), 8 I/O6 0A14 (io), 9 I/O7 0A15 (io), 12 I/O8 0B13 (io), 13 I/O9 0B12 (io), 14 I/O10 0B11 (io), 15 I/O11 0B10 (io), 16 I/O12 0B9 (io), 17 I/O13 0B8 (io), 18 I/O14 0B7 (io), 19 I/O15 0B6 (io), 21 I/O16 0B5 (io), 22 I/O17 0B4 (io), 23 I/O18 0B3 (io), 24 I/O19 0B2 (io), 29 I/O20 1B2 (io), 30 I/O21 1B3 (io), 31 I/O22 1B4 (io), 32 I/O23 1B5 (io), 34 I/O24 1B6 (io), 35 I/O25 1B7 (io), 36 I/O26 1B8 (io), 37 I/O27 1B9 (io), 38 I/O28 1B10 (io), 39 I/O29 1B11 (io), 40 I/O30 1B12 (io), 41 I/O31 1B13 (io), 44 I/O32 1A15 (io), 45 I/O33 1A14 (io), 46 I/O34 1A13 (io), 47 I/O35 1A12 (io), 48 I/O36 1A11 (io), 49 I/O37 1A10 (io), 50 I/O38 1A9 (io), 51 I/O39 1A8 (io), 54 I/O40 1A7 (io), 55 I/O41 1A6 (io), 56 I/O42 1A5 (io), 57 I/O43 1A4 (io), 58 I/O44 1A3 (io), 59 I/O45 1A2 (io), 60 I/O46 1A1 (io), 61 I/O47 1A0 (io), 64 I/O48 1D2 (io), 65 I/O49 1D3 (io), 66 I/O50 1D4 (io), 67 I/O51 1D5 (io), 68 I/O52 1D6 (io), 69 I/O53 1D7 (io), 70 I/O54 1D8 (io), 71 I/O55 1D9 (io), 73 I/O56 1D10 (io), 74 I/O57 1D11 (io), 75 I/O58 1D12 (io), 76 I/O59 1D13 (io), 81 I/O60 2D13 (io), 82 I/O61 2D12 (io), 83 I/O62 2D11 (io), 84 I/O63 2D10 (io), 86 I/O64 2D9 (io), 87 I/O65 2D8 (io), 88 I/O66 2D7 (io), 89 I/O67 2D6 (io), 90 I/O68 2D5 (io), 91 I/O69 2D4 (io), 92 I/O70 2D3 (io), 93 I/O71 2D2 (io), 96 I/O72 2A0 (io), 97 I/O73 2A1 (io), 98 I/O74 2A2 (io), 99 I/O75 2A3 (io), 100 I/O76 2A4 (io), 101 I/O77 2A5 (io), 102 I/O78 2A6 (io), 103 I/O79 2A7 (io), 106 I/O80 2A8 (io), 107 I/O81 2A9 (io), 108 I/O82 2A10 (io), 109 I/O83 2A11 (io), 110 I/O84 2A12 (io), 111 I/O85 2A13 (io), 112 I/O86 2A14 (io), 113 I/O87 2A15 (io), 116 I/O88 2B13 (io), 117 I/O89 2B12 (io), 118 I/O90 2B11 (io), 119 I/O91 2B10 (io), 120 I/O92 2B9 (io), 121 I/O93 2B8 (io), 122 I/O94 2B7 (io), 123 I/O95 2B6 (io), 125 I/O96 2B5 (io), 126 I/O97 2B4 (io), 127 I/O98 2B3 (io), 128 I/O99 2B2 (io), 133 I/O100 3B2 (io), 134 I/O101 3B3 (io), 135 I/O102 3B4 (io), 136 I/O103 3B5 (io), 138 I/O104 3B6 (io), 139 I/O105 3B7 (io), 140 I/O106 3B8 (io), 141 I/O107 3B9 (io), 142 I/O108 3B10 (io), 143 I/O109 3B11 (io), 144 I/O110 3B12 (io), 145 I/O111 3B13 (io), 148 I/O112 3A15 (io), 149 I/O113 3A14 (io), 150 I/O114 3A13 (io), 151 I/O115 3A12 (io), 152 I/O116 3A11 (io), 153 I/O117 3A10 (io), 154 I/O118 3A9 (io), 155 I/O119 3A8 (io), 158 I/O120 3A7 (io), 159 I/O121 3A6 (io), 160 I/O122 3A5 (io), 161 I/O123 3A4 (io), 162 I/O124 3A3 (io), 163 I/O125 3A2 (io), 164 I/O126 3A1 (io), 165 I/O127 3A0 (io), 168 I/O128 3D2 (io), 169 I/O129 3D3 (io), 170 I/O130 3D4 (io), 171 I/O131 3D5 (io), 172 I/O132 3D6 (io), 173 I/O133 3D7 (io), 174 I/O134 3D8 (io), 175 I/O135 3D9 (io), 177 I/O136 3D10 (io), 178 I/O137 3D11 (io), 179 I/O138 3D12 (io), 180 I/O139 3D13 (io), 185 I/O140 0D13 (io), 186 I/O141 0D12 (io), 187 I/O142 0D11 (io), 188 I/O143 0D10 (io), 190 I/O144 0D9 (io), 191 I/O145 0D8 (io), 192 I/O146 0D7 (io), 193 I/O147 0D6 (io), 194 I/O148 0D5 (io), 195 I/O149 0D4 (io), 196 I/O150 0D3 (io), 197 I/O151 0D2 (io), 200 I/O152 0A0 (io), 201 I/O153 0A1 (io), 202 I/O154 0A2 (io), 203 I/O155 0A3 (io), 204 I/O156 0A4 (io), 205 I/O157 0A5 (io), 206 I/O158 0A6 (io), 207 I/O159 0A7 (io)
part B pins: 1 TDI (in), 10 VCC (power), 11 GND (power), 20 GND (power), 25 I0/CLK0 (in), 26 VCC (power), 27 GND (power), 28 I1/CLK1 (in), 33 GND (power), 42 GND (power), 43 VCC (power), 52 TCK (in), 53 GND (power), 62 GND (power), 63 VCC (power), 72 GND (power), 77 VCC (power), 78 GND (power), 79 GND (power), 80 VCC (power), 85 GND (power), 94 VCC (power), 95 GND (power), 104 GND (power), 105 TMS (in), 114 VCC (power), 115 GND (power), 124 GND (power), 129 I2/CLK2 (in), 130 VCC (power), 131 GND (power), 132 I3/CLK3 (in), 137 GND (power), 146 GND (power), 147 VCC (power), 156 TDO (out), 157 GND (power), 166 GND (power), 167 VCC (power), 176 GND (power), 181 VCC (power), 182 GND (power), 183 GND (power), 184 VCC (power), 189 GND (power), 198 VCC (power), 199 GND (power), 208 GND (power)

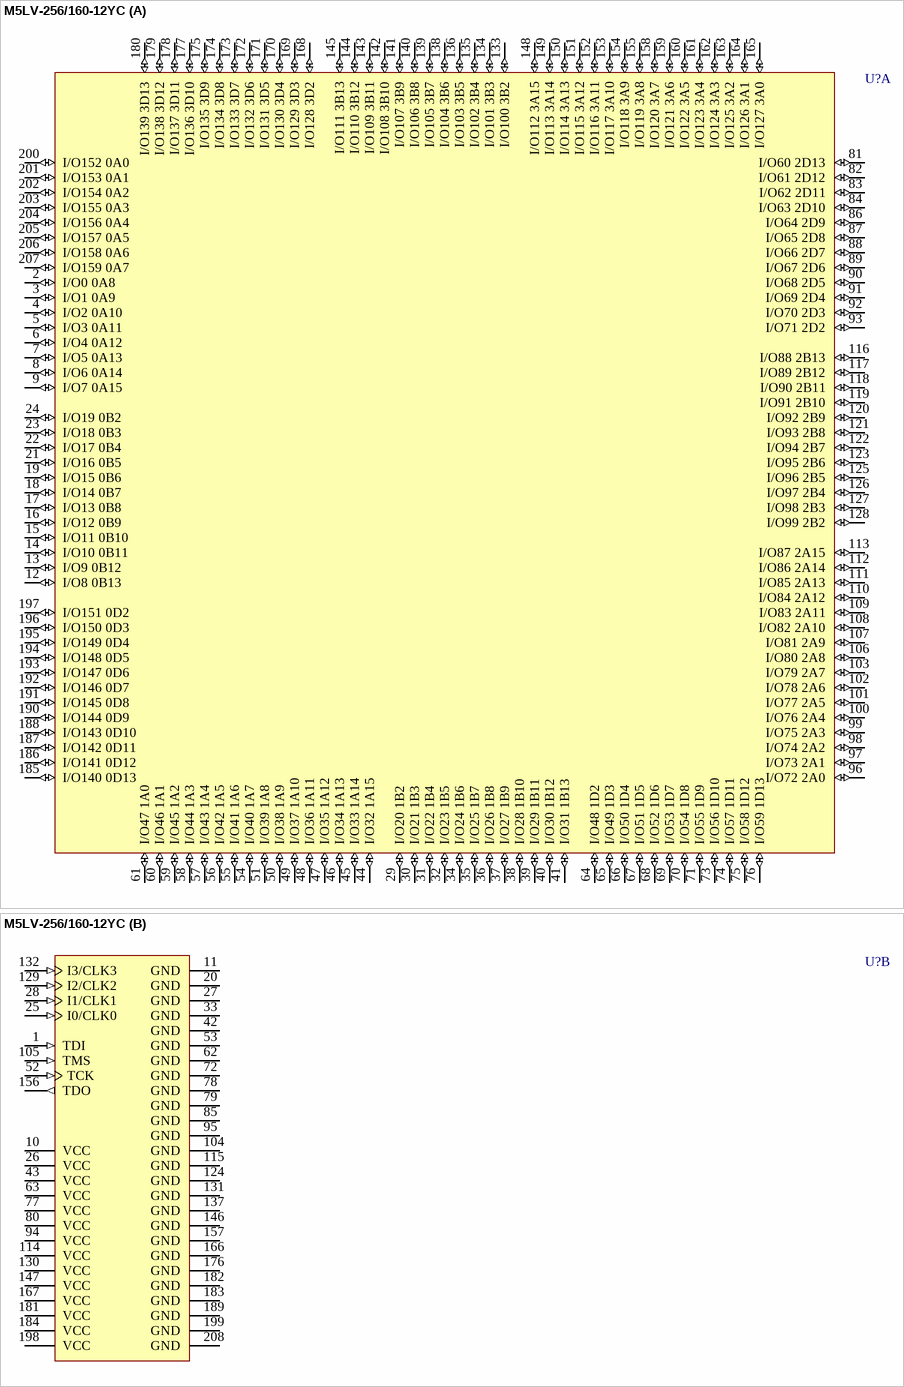
[diagram p196: symbol M5LV-256/160-12YC]

## M5LV-256/160-12YC
designator U?
High-Density and High-I/O Complex PLD; Published: 23-Sep-2002; LatestRevisionDate: 13-Apr-2006; LatestRevisionNote: IPC-7351 Footprint Added.; DatasheetVersion: Sep-2000; PackageVersion: pkg_32, Aug-2005; PackageReference: PQFP208; Publisher: Altium Limited; PackageDescription: 208-Pin Plastic Quad Flat Pack (PQFP208); Code_JEDEC: MO-143-FAI; ComponentLink1Description: Manufacturer Link; ComponentLink1URL: http://www.latticesemi.com/products/mature/index.cfm; ComponentLink2Description: Datasheet; ComponentLink2URL: http://www.latticesemi.com/lit/docs/datasheets/cpld/mach5.pdf
footprint PQFP208_N (Shrink QFP, 208-Leads, Body 28x28mm, Pitch 0.5mm, IPC Medium Density)
footprint PQFP208_L (Shrink QFP, 208-Leads, Body 28x28mm, Pitch 0.5mm, IPC High Density)
footprint PQFP208_M (Shrink QFP, 208-Leads, Body 28x28mm, Pitch 0.5mm, IPC Low Density)
3D model M5LV-PQFP208 (208-Pin Plastic Quad Flat Pack (PQFP208))
part A pins: 2 I/O0 0A8 (io), 3 I/O1 0A9 (io), 4 I/O2 0A10 (io), 5 I/O3 0A11 (io), 6 I/O4 0A12 (io), 7 I/O5 0A13 (io), 8 I/O6 0A14 (io), 9 I/O7 0A15 (io), 12 I/O8 0B13 (io), 13 I/O9 0B12 (io), 14 I/O10 0B11 (io), 15 I/O11 0B10 (io), 16 I/O12 0B9 (io), 17 I/O13 0B8 (io), 18 I/O14 0B7 (io), 19 I/O15 0B6 (io), 21 I/O16 0B5 (io), 22 I/O17 0B4 (io), 23 I/O18 0B3 (io), 24 I/O19 0B2 (io), 29 I/O20 1B2 (io), 30 I/O21 1B3 (io), 31 I/O22 1B4 (io), 32 I/O23 1B5 (io), 34 I/O24 1B6 (io), 35 I/O25 1B7 (io), 36 I/O26 1B8 (io), 37 I/O27 1B9 (io), 38 I/O28 1B10 (io), 39 I/O29 1B11 (io), 40 I/O30 1B12 (io), 41 I/O31 1B13 (io), 44 I/O32 1A15 (io), 45 I/O33 1A14 (io), 46 I/O34 1A13 (io), 47 I/O35 1A12 (io), 48 I/O36 1A11 (io), 49 I/O37 1A10 (io), 50 I/O38 1A9 (io), 51 I/O39 1A8 (io), 54 I/O40 1A7 (io), 55 I/O41 1A6 (io), 56 I/O42 1A5 (io), 57 I/O43 1A4 (io), 58 I/O44 1A3 (io), 59 I/O45 1A2 (io), 60 I/O46 1A1 (io), 61 I/O47 1A0 (io), 64 I/O48 1D2 (io), 65 I/O49 1D3 (io), 66 I/O50 1D4 (io), 67 I/O51 1D5 (io), 68 I/O52 1D6 (io), 69 I/O53 1D7 (io), 70 I/O54 1D8 (io), 71 I/O55 1D9 (io), 73 I/O56 1D10 (io), 74 I/O57 1D11 (io), 75 I/O58 1D12 (io), 76 I/O59 1D13 (io), 81 I/O60 2D13 (io), 82 I/O61 2D12 (io), 83 I/O62 2D11 (io), 84 I/O63 2D10 (io), 86 I/O64 2D9 (io), 87 I/O65 2D8 (io), 88 I/O66 2D7 (io), 89 I/O67 2D6 (io), 90 I/O68 2D5 (io), 91 I/O69 2D4 (io), 92 I/O70 2D3 (io), 93 I/O71 2D2 (io), 96 I/O72 2A0 (io), 97 I/O73 2A1 (io), 98 I/O74 2A2 (io), 99 I/O75 2A3 (io), 100 I/O76 2A4 (io), 101 I/O77 2A5 (io), 102 I/O78 2A6 (io), 103 I/O79 2A7 (io), 106 I/O80 2A8 (io), 107 I/O81 2A9 (io), 108 I/O82 2A10 (io), 109 I/O83 2A11 (io), 110 I/O84 2A12 (io), 111 I/O85 2A13 (io), 112 I/O86 2A14 (io), 113 I/O87 2A15 (io), 116 I/O88 2B13 (io), 117 I/O89 2B12 (io), 118 I/O90 2B11 (io), 119 I/O91 2B10 (io), 120 I/O92 2B9 (io), 121 I/O93 2B8 (io), 122 I/O94 2B7 (io), 123 I/O95 2B6 (io), 125 I/O96 2B5 (io), 126 I/O97 2B4 (io), 127 I/O98 2B3 (io), 128 I/O99 2B2 (io), 133 I/O100 3B2 (io), 134 I/O101 3B3 (io), 135 I/O102 3B4 (io), 136 I/O103 3B5 (io), 138 I/O104 3B6 (io), 139 I/O105 3B7 (io), 140 I/O106 3B8 (io), 141 I/O107 3B9 (io), 142 I/O108 3B10 (io), 143 I/O109 3B11 (io), 144 I/O110 3B12 (io), 145 I/O111 3B13 (io), 148 I/O112 3A15 (io), 149 I/O113 3A14 (io), 150 I/O114 3A13 (io), 151 I/O115 3A12 (io), 152 I/O116 3A11 (io), 153 I/O117 3A10 (io), 154 I/O118 3A9 (io), 155 I/O119 3A8 (io), 158 I/O120 3A7 (io), 159 I/O121 3A6 (io), 160 I/O122 3A5 (io), 161 I/O123 3A4 (io), 162 I/O124 3A3 (io), 163 I/O125 3A2 (io), 164 I/O126 3A1 (io), 165 I/O127 3A0 (io), 168 I/O128 3D2 (io), 169 I/O129 3D3 (io), 170 I/O130 3D4 (io), 171 I/O131 3D5 (io), 172 I/O132 3D6 (io), 173 I/O133 3D7 (io), 174 I/O134 3D8 (io), 175 I/O135 3D9 (io), 177 I/O136 3D10 (io), 178 I/O137 3D11 (io), 179 I/O138 3D12 (io), 180 I/O139 3D13 (io), 185 I/O140 0D13 (io), 186 I/O141 0D12 (io), 187 I/O142 0D11 (io), 188 I/O143 0D10 (io), 190 I/O144 0D9 (io), 191 I/O145 0D8 (io), 192 I/O146 0D7 (io), 193 I/O147 0D6 (io), 194 I/O148 0D5 (io), 195 I/O149 0D4 (io), 196 I/O150 0D3 (io), 197 I/O151 0D2 (io), 200 I/O152 0A0 (io), 201 I/O153 0A1 (io), 202 I/O154 0A2 (io), 203 I/O155 0A3 (io), 204 I/O156 0A4 (io), 205 I/O157 0A5 (io), 206 I/O158 0A6 (io), 207 I/O159 0A7 (io)
part B pins: 1 TDI (in), 10 VCC (power), 11 GND (power), 20 GND (power), 25 I0/CLK0 (in), 26 VCC (power), 27 GND (power), 28 I1/CLK1 (in), 33 GND (power), 42 GND (power), 43 VCC (power), 52 TCK (in), 53 GND (power), 62 GND (power), 63 VCC (power), 72 GND (power), 77 VCC (power), 78 GND (power), 79 GND (power), 80 VCC (power), 85 GND (power), 94 VCC (power), 95 GND (power), 104 GND (power), 105 TMS (in), 114 VCC (power), 115 GND (power), 124 GND (power), 129 I2/CLK2 (in), 130 VCC (power), 131 GND (power), 132 I3/CLK3 (in), 137 GND (power), 146 GND (power), 147 VCC (power), 156 TDO (out), 157 GND (power), 166 GND (power), 167 VCC (power), 176 GND (power), 181 VCC (power), 182 GND (power), 183 GND (power), 184 VCC (power), 189 GND (power), 198 VCC (power), 199 GND (power), 208 GND (power)

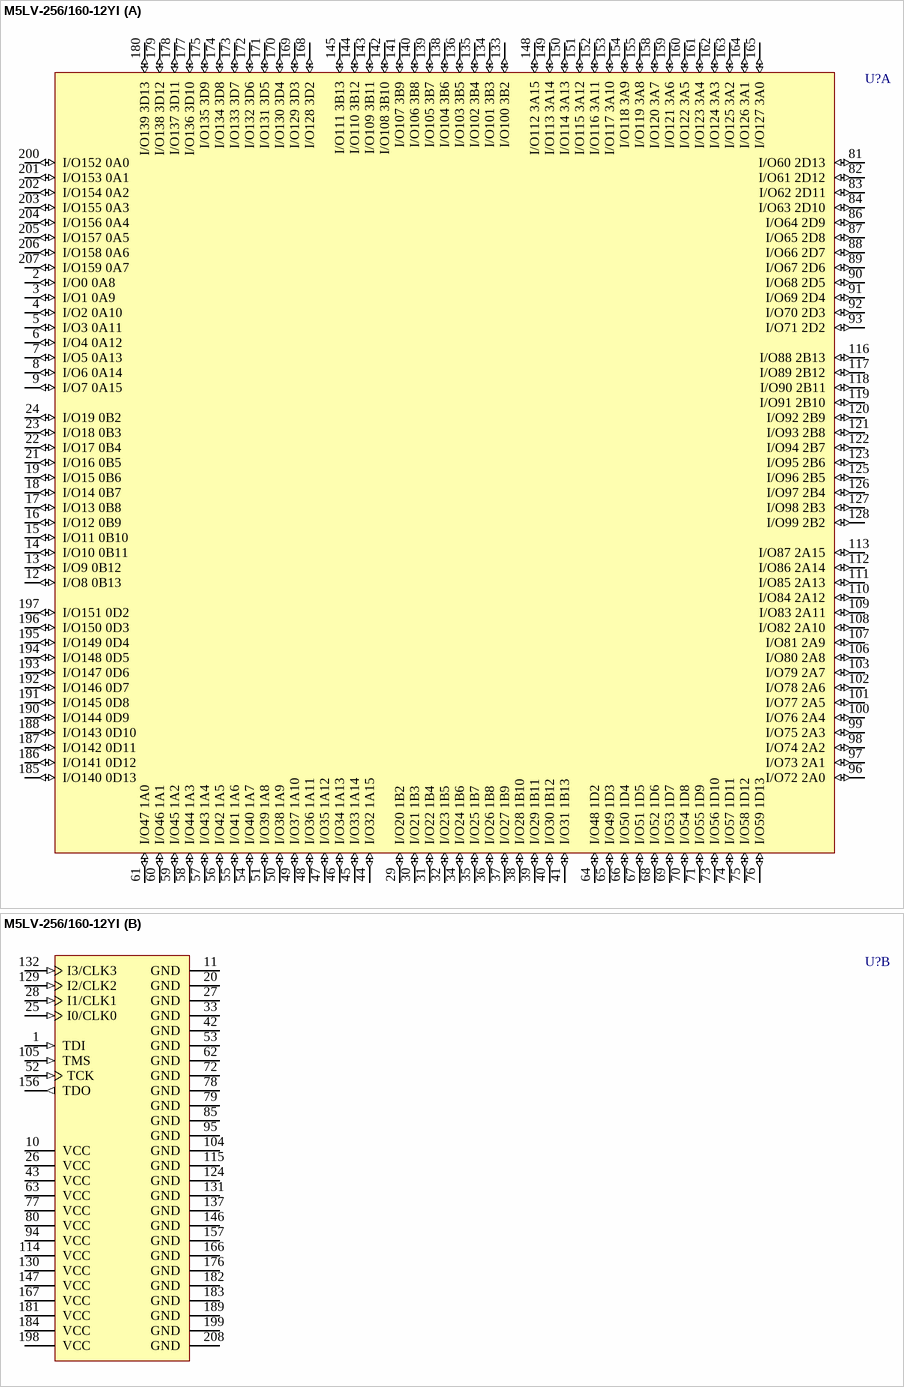
[diagram p197: symbol M5LV-256/160-12YI]

## M5LV-256/160-12YI
designator U?
High-Density and High-I/O Complex PLD; Published: 23-Sep-2002; LatestRevisionDate: 13-Apr-2006; LatestRevisionNote: IPC-7351 Footprint Added.; DatasheetVersion: Sep-2000; PackageVersion: pkg_32, Aug-2005; PackageReference: PQFP208; Publisher: Altium Limited; PackageDescription: 208-Pin Plastic Quad Flat Pack (PQFP208); Code_JEDEC: MO-143-FAI; ComponentLink1Description: Manufacturer Link; ComponentLink1URL: http://www.latticesemi.com/products/mature/index.cfm; ComponentLink2Description: Datasheet; ComponentLink2URL: http://www.latticesemi.com/lit/docs/datasheets/cpld/mach5.pdf
footprint PQFP208_N (Shrink QFP, 208-Leads, Body 28x28mm, Pitch 0.5mm, IPC Medium Density)
footprint PQFP208_L (Shrink QFP, 208-Leads, Body 28x28mm, Pitch 0.5mm, IPC High Density)
footprint PQFP208_M (Shrink QFP, 208-Leads, Body 28x28mm, Pitch 0.5mm, IPC Low Density)
3D model M5LV-PQFP208 (208-Pin Plastic Quad Flat Pack (PQFP208))
part A pins: 2 I/O0 0A8 (io), 3 I/O1 0A9 (io), 4 I/O2 0A10 (io), 5 I/O3 0A11 (io), 6 I/O4 0A12 (io), 7 I/O5 0A13 (io), 8 I/O6 0A14 (io), 9 I/O7 0A15 (io), 12 I/O8 0B13 (io), 13 I/O9 0B12 (io), 14 I/O10 0B11 (io), 15 I/O11 0B10 (io), 16 I/O12 0B9 (io), 17 I/O13 0B8 (io), 18 I/O14 0B7 (io), 19 I/O15 0B6 (io), 21 I/O16 0B5 (io), 22 I/O17 0B4 (io), 23 I/O18 0B3 (io), 24 I/O19 0B2 (io), 29 I/O20 1B2 (io), 30 I/O21 1B3 (io), 31 I/O22 1B4 (io), 32 I/O23 1B5 (io), 34 I/O24 1B6 (io), 35 I/O25 1B7 (io), 36 I/O26 1B8 (io), 37 I/O27 1B9 (io), 38 I/O28 1B10 (io), 39 I/O29 1B11 (io), 40 I/O30 1B12 (io), 41 I/O31 1B13 (io), 44 I/O32 1A15 (io), 45 I/O33 1A14 (io), 46 I/O34 1A13 (io), 47 I/O35 1A12 (io), 48 I/O36 1A11 (io), 49 I/O37 1A10 (io), 50 I/O38 1A9 (io), 51 I/O39 1A8 (io), 54 I/O40 1A7 (io), 55 I/O41 1A6 (io), 56 I/O42 1A5 (io), 57 I/O43 1A4 (io), 58 I/O44 1A3 (io), 59 I/O45 1A2 (io), 60 I/O46 1A1 (io), 61 I/O47 1A0 (io), 64 I/O48 1D2 (io), 65 I/O49 1D3 (io), 66 I/O50 1D4 (io), 67 I/O51 1D5 (io), 68 I/O52 1D6 (io), 69 I/O53 1D7 (io), 70 I/O54 1D8 (io), 71 I/O55 1D9 (io), 73 I/O56 1D10 (io), 74 I/O57 1D11 (io), 75 I/O58 1D12 (io), 76 I/O59 1D13 (io), 81 I/O60 2D13 (io), 82 I/O61 2D12 (io), 83 I/O62 2D11 (io), 84 I/O63 2D10 (io), 86 I/O64 2D9 (io), 87 I/O65 2D8 (io), 88 I/O66 2D7 (io), 89 I/O67 2D6 (io), 90 I/O68 2D5 (io), 91 I/O69 2D4 (io), 92 I/O70 2D3 (io), 93 I/O71 2D2 (io), 96 I/O72 2A0 (io), 97 I/O73 2A1 (io), 98 I/O74 2A2 (io), 99 I/O75 2A3 (io), 100 I/O76 2A4 (io), 101 I/O77 2A5 (io), 102 I/O78 2A6 (io), 103 I/O79 2A7 (io), 106 I/O80 2A8 (io), 107 I/O81 2A9 (io), 108 I/O82 2A10 (io), 109 I/O83 2A11 (io), 110 I/O84 2A12 (io), 111 I/O85 2A13 (io), 112 I/O86 2A14 (io), 113 I/O87 2A15 (io), 116 I/O88 2B13 (io), 117 I/O89 2B12 (io), 118 I/O90 2B11 (io), 119 I/O91 2B10 (io), 120 I/O92 2B9 (io), 121 I/O93 2B8 (io), 122 I/O94 2B7 (io), 123 I/O95 2B6 (io), 125 I/O96 2B5 (io), 126 I/O97 2B4 (io), 127 I/O98 2B3 (io), 128 I/O99 2B2 (io), 133 I/O100 3B2 (io), 134 I/O101 3B3 (io), 135 I/O102 3B4 (io), 136 I/O103 3B5 (io), 138 I/O104 3B6 (io), 139 I/O105 3B7 (io), 140 I/O106 3B8 (io), 141 I/O107 3B9 (io), 142 I/O108 3B10 (io), 143 I/O109 3B11 (io), 144 I/O110 3B12 (io), 145 I/O111 3B13 (io), 148 I/O112 3A15 (io), 149 I/O113 3A14 (io), 150 I/O114 3A13 (io), 151 I/O115 3A12 (io), 152 I/O116 3A11 (io), 153 I/O117 3A10 (io), 154 I/O118 3A9 (io), 155 I/O119 3A8 (io), 158 I/O120 3A7 (io), 159 I/O121 3A6 (io), 160 I/O122 3A5 (io), 161 I/O123 3A4 (io), 162 I/O124 3A3 (io), 163 I/O125 3A2 (io), 164 I/O126 3A1 (io), 165 I/O127 3A0 (io), 168 I/O128 3D2 (io), 169 I/O129 3D3 (io), 170 I/O130 3D4 (io), 171 I/O131 3D5 (io), 172 I/O132 3D6 (io), 173 I/O133 3D7 (io), 174 I/O134 3D8 (io), 175 I/O135 3D9 (io), 177 I/O136 3D10 (io), 178 I/O137 3D11 (io), 179 I/O138 3D12 (io), 180 I/O139 3D13 (io), 185 I/O140 0D13 (io), 186 I/O141 0D12 (io), 187 I/O142 0D11 (io), 188 I/O143 0D10 (io), 190 I/O144 0D9 (io), 191 I/O145 0D8 (io), 192 I/O146 0D7 (io), 193 I/O147 0D6 (io), 194 I/O148 0D5 (io), 195 I/O149 0D4 (io), 196 I/O150 0D3 (io), 197 I/O151 0D2 (io), 200 I/O152 0A0 (io), 201 I/O153 0A1 (io), 202 I/O154 0A2 (io), 203 I/O155 0A3 (io), 204 I/O156 0A4 (io), 205 I/O157 0A5 (io), 206 I/O158 0A6 (io), 207 I/O159 0A7 (io)
part B pins: 1 TDI (in), 10 VCC (power), 11 GND (power), 20 GND (power), 25 I0/CLK0 (in), 26 VCC (power), 27 GND (power), 28 I1/CLK1 (in), 33 GND (power), 42 GND (power), 43 VCC (power), 52 TCK (in), 53 GND (power), 62 GND (power), 63 VCC (power), 72 GND (power), 77 VCC (power), 78 GND (power), 79 GND (power), 80 VCC (power), 85 GND (power), 94 VCC (power), 95 GND (power), 104 GND (power), 105 TMS (in), 114 VCC (power), 115 GND (power), 124 GND (power), 129 I2/CLK2 (in), 130 VCC (power), 131 GND (power), 132 I3/CLK3 (in), 137 GND (power), 146 GND (power), 147 VCC (power), 156 TDO (out), 157 GND (power), 166 GND (power), 167 VCC (power), 176 GND (power), 181 VCC (power), 182 GND (power), 183 GND (power), 184 VCC (power), 189 GND (power), 198 VCC (power), 199 GND (power), 208 GND (power)

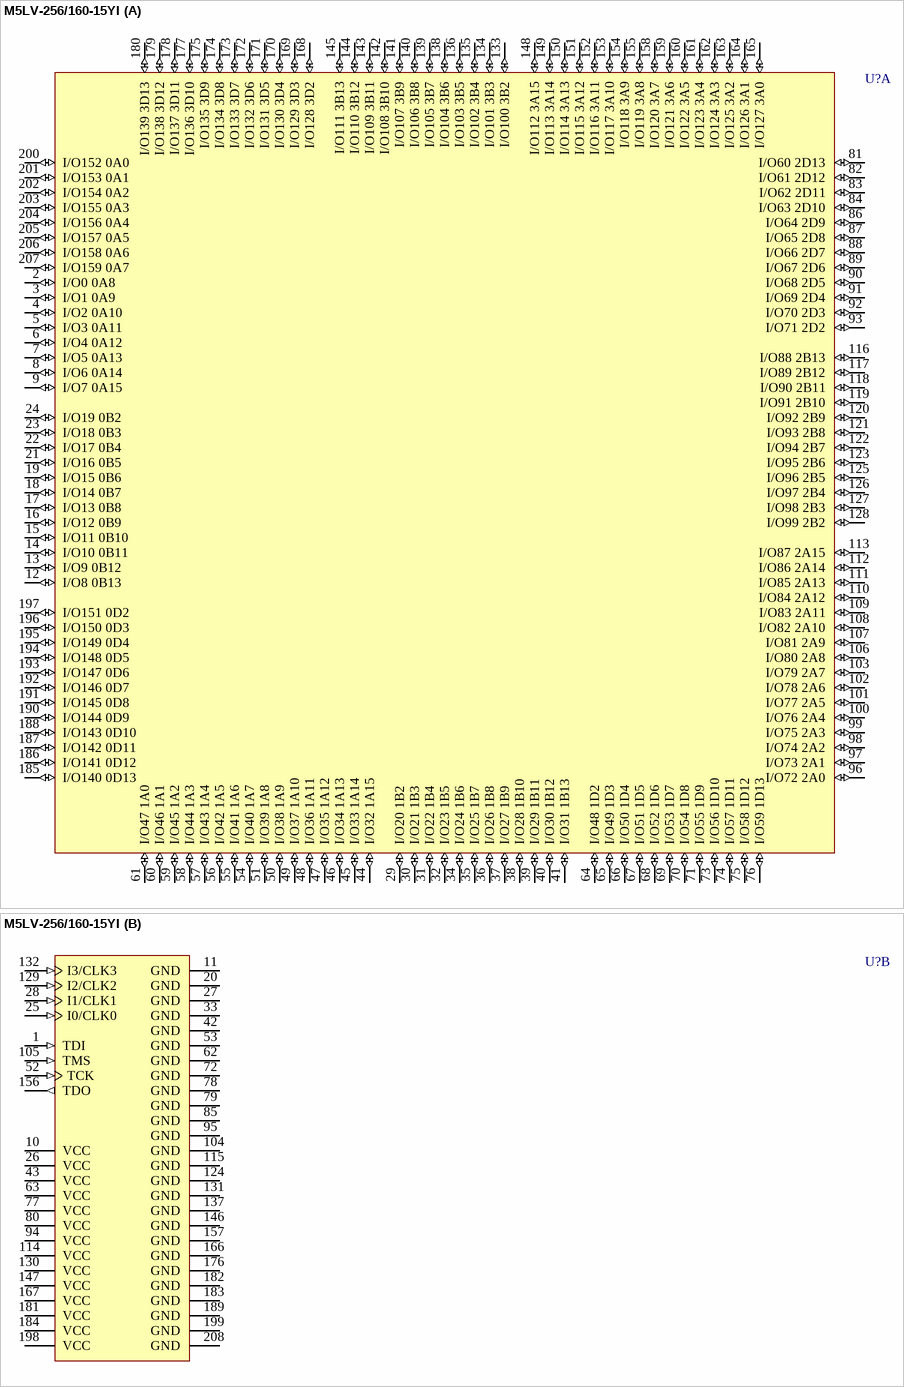
[diagram p198: symbol M5LV-256/160-15YI]

## M5LV-256/160-15YI
designator U?
High-Density and High-I/O Complex PLD; Published: 23-Sep-2002; LatestRevisionDate: 13-Apr-2006; LatestRevisionNote: IPC-7351 Footprint Added.; DatasheetVersion: Sep-2000; PackageVersion: pkg_32, Aug-2005; PackageReference: PQFP208; Publisher: Altium Limited; PackageDescription: 208-Pin Plastic Quad Flat Pack (PQFP208); Code_JEDEC: MO-143-FAI; ComponentLink1Description: Manufacturer Link; ComponentLink1URL: http://www.latticesemi.com/products/mature/index.cfm; ComponentLink2Description: Datasheet; ComponentLink2URL: http://www.latticesemi.com/lit/docs/datasheets/cpld/mach5.pdf
footprint PQFP208_N (Shrink QFP, 208-Leads, Body 28x28mm, Pitch 0.5mm, IPC Medium Density)
footprint PQFP208_L (Shrink QFP, 208-Leads, Body 28x28mm, Pitch 0.5mm, IPC High Density)
footprint PQFP208_M (Shrink QFP, 208-Leads, Body 28x28mm, Pitch 0.5mm, IPC Low Density)
3D model M5LV-PQFP208 (208-Pin Plastic Quad Flat Pack (PQFP208))
part A pins: 2 I/O0 0A8 (io), 3 I/O1 0A9 (io), 4 I/O2 0A10 (io), 5 I/O3 0A11 (io), 6 I/O4 0A12 (io), 7 I/O5 0A13 (io), 8 I/O6 0A14 (io), 9 I/O7 0A15 (io), 12 I/O8 0B13 (io), 13 I/O9 0B12 (io), 14 I/O10 0B11 (io), 15 I/O11 0B10 (io), 16 I/O12 0B9 (io), 17 I/O13 0B8 (io), 18 I/O14 0B7 (io), 19 I/O15 0B6 (io), 21 I/O16 0B5 (io), 22 I/O17 0B4 (io), 23 I/O18 0B3 (io), 24 I/O19 0B2 (io), 29 I/O20 1B2 (io), 30 I/O21 1B3 (io), 31 I/O22 1B4 (io), 32 I/O23 1B5 (io), 34 I/O24 1B6 (io), 35 I/O25 1B7 (io), 36 I/O26 1B8 (io), 37 I/O27 1B9 (io), 38 I/O28 1B10 (io), 39 I/O29 1B11 (io), 40 I/O30 1B12 (io), 41 I/O31 1B13 (io), 44 I/O32 1A15 (io), 45 I/O33 1A14 (io), 46 I/O34 1A13 (io), 47 I/O35 1A12 (io), 48 I/O36 1A11 (io), 49 I/O37 1A10 (io), 50 I/O38 1A9 (io), 51 I/O39 1A8 (io), 54 I/O40 1A7 (io), 55 I/O41 1A6 (io), 56 I/O42 1A5 (io), 57 I/O43 1A4 (io), 58 I/O44 1A3 (io), 59 I/O45 1A2 (io), 60 I/O46 1A1 (io), 61 I/O47 1A0 (io), 64 I/O48 1D2 (io), 65 I/O49 1D3 (io), 66 I/O50 1D4 (io), 67 I/O51 1D5 (io), 68 I/O52 1D6 (io), 69 I/O53 1D7 (io), 70 I/O54 1D8 (io), 71 I/O55 1D9 (io), 73 I/O56 1D10 (io), 74 I/O57 1D11 (io), 75 I/O58 1D12 (io), 76 I/O59 1D13 (io), 81 I/O60 2D13 (io), 82 I/O61 2D12 (io), 83 I/O62 2D11 (io), 84 I/O63 2D10 (io), 86 I/O64 2D9 (io), 87 I/O65 2D8 (io), 88 I/O66 2D7 (io), 89 I/O67 2D6 (io), 90 I/O68 2D5 (io), 91 I/O69 2D4 (io), 92 I/O70 2D3 (io), 93 I/O71 2D2 (io), 96 I/O72 2A0 (io), 97 I/O73 2A1 (io), 98 I/O74 2A2 (io), 99 I/O75 2A3 (io), 100 I/O76 2A4 (io), 101 I/O77 2A5 (io), 102 I/O78 2A6 (io), 103 I/O79 2A7 (io), 106 I/O80 2A8 (io), 107 I/O81 2A9 (io), 108 I/O82 2A10 (io), 109 I/O83 2A11 (io), 110 I/O84 2A12 (io), 111 I/O85 2A13 (io), 112 I/O86 2A14 (io), 113 I/O87 2A15 (io), 116 I/O88 2B13 (io), 117 I/O89 2B12 (io), 118 I/O90 2B11 (io), 119 I/O91 2B10 (io), 120 I/O92 2B9 (io), 121 I/O93 2B8 (io), 122 I/O94 2B7 (io), 123 I/O95 2B6 (io), 125 I/O96 2B5 (io), 126 I/O97 2B4 (io), 127 I/O98 2B3 (io), 128 I/O99 2B2 (io), 133 I/O100 3B2 (io), 134 I/O101 3B3 (io), 135 I/O102 3B4 (io), 136 I/O103 3B5 (io), 138 I/O104 3B6 (io), 139 I/O105 3B7 (io), 140 I/O106 3B8 (io), 141 I/O107 3B9 (io), 142 I/O108 3B10 (io), 143 I/O109 3B11 (io), 144 I/O110 3B12 (io), 145 I/O111 3B13 (io), 148 I/O112 3A15 (io), 149 I/O113 3A14 (io), 150 I/O114 3A13 (io), 151 I/O115 3A12 (io), 152 I/O116 3A11 (io), 153 I/O117 3A10 (io), 154 I/O118 3A9 (io), 155 I/O119 3A8 (io), 158 I/O120 3A7 (io), 159 I/O121 3A6 (io), 160 I/O122 3A5 (io), 161 I/O123 3A4 (io), 162 I/O124 3A3 (io), 163 I/O125 3A2 (io), 164 I/O126 3A1 (io), 165 I/O127 3A0 (io), 168 I/O128 3D2 (io), 169 I/O129 3D3 (io), 170 I/O130 3D4 (io), 171 I/O131 3D5 (io), 172 I/O132 3D6 (io), 173 I/O133 3D7 (io), 174 I/O134 3D8 (io), 175 I/O135 3D9 (io), 177 I/O136 3D10 (io), 178 I/O137 3D11 (io), 179 I/O138 3D12 (io), 180 I/O139 3D13 (io), 185 I/O140 0D13 (io), 186 I/O141 0D12 (io), 187 I/O142 0D11 (io), 188 I/O143 0D10 (io), 190 I/O144 0D9 (io), 191 I/O145 0D8 (io), 192 I/O146 0D7 (io), 193 I/O147 0D6 (io), 194 I/O148 0D5 (io), 195 I/O149 0D4 (io), 196 I/O150 0D3 (io), 197 I/O151 0D2 (io), 200 I/O152 0A0 (io), 201 I/O153 0A1 (io), 202 I/O154 0A2 (io), 203 I/O155 0A3 (io), 204 I/O156 0A4 (io), 205 I/O157 0A5 (io), 206 I/O158 0A6 (io), 207 I/O159 0A7 (io)
part B pins: 1 TDI (in), 10 VCC (power), 11 GND (power), 20 GND (power), 25 I0/CLK0 (in), 26 VCC (power), 27 GND (power), 28 I1/CLK1 (in), 33 GND (power), 42 GND (power), 43 VCC (power), 52 TCK (in), 53 GND (power), 62 GND (power), 63 VCC (power), 72 GND (power), 77 VCC (power), 78 GND (power), 79 GND (power), 80 VCC (power), 85 GND (power), 94 VCC (power), 95 GND (power), 104 GND (power), 105 TMS (in), 114 VCC (power), 115 GND (power), 124 GND (power), 129 I2/CLK2 (in), 130 VCC (power), 131 GND (power), 132 I3/CLK3 (in), 137 GND (power), 146 GND (power), 147 VCC (power), 156 TDO (out), 157 GND (power), 166 GND (power), 167 VCC (power), 176 GND (power), 181 VCC (power), 182 GND (power), 183 GND (power), 184 VCC (power), 189 GND (power), 198 VCC (power), 199 GND (power), 208 GND (power)

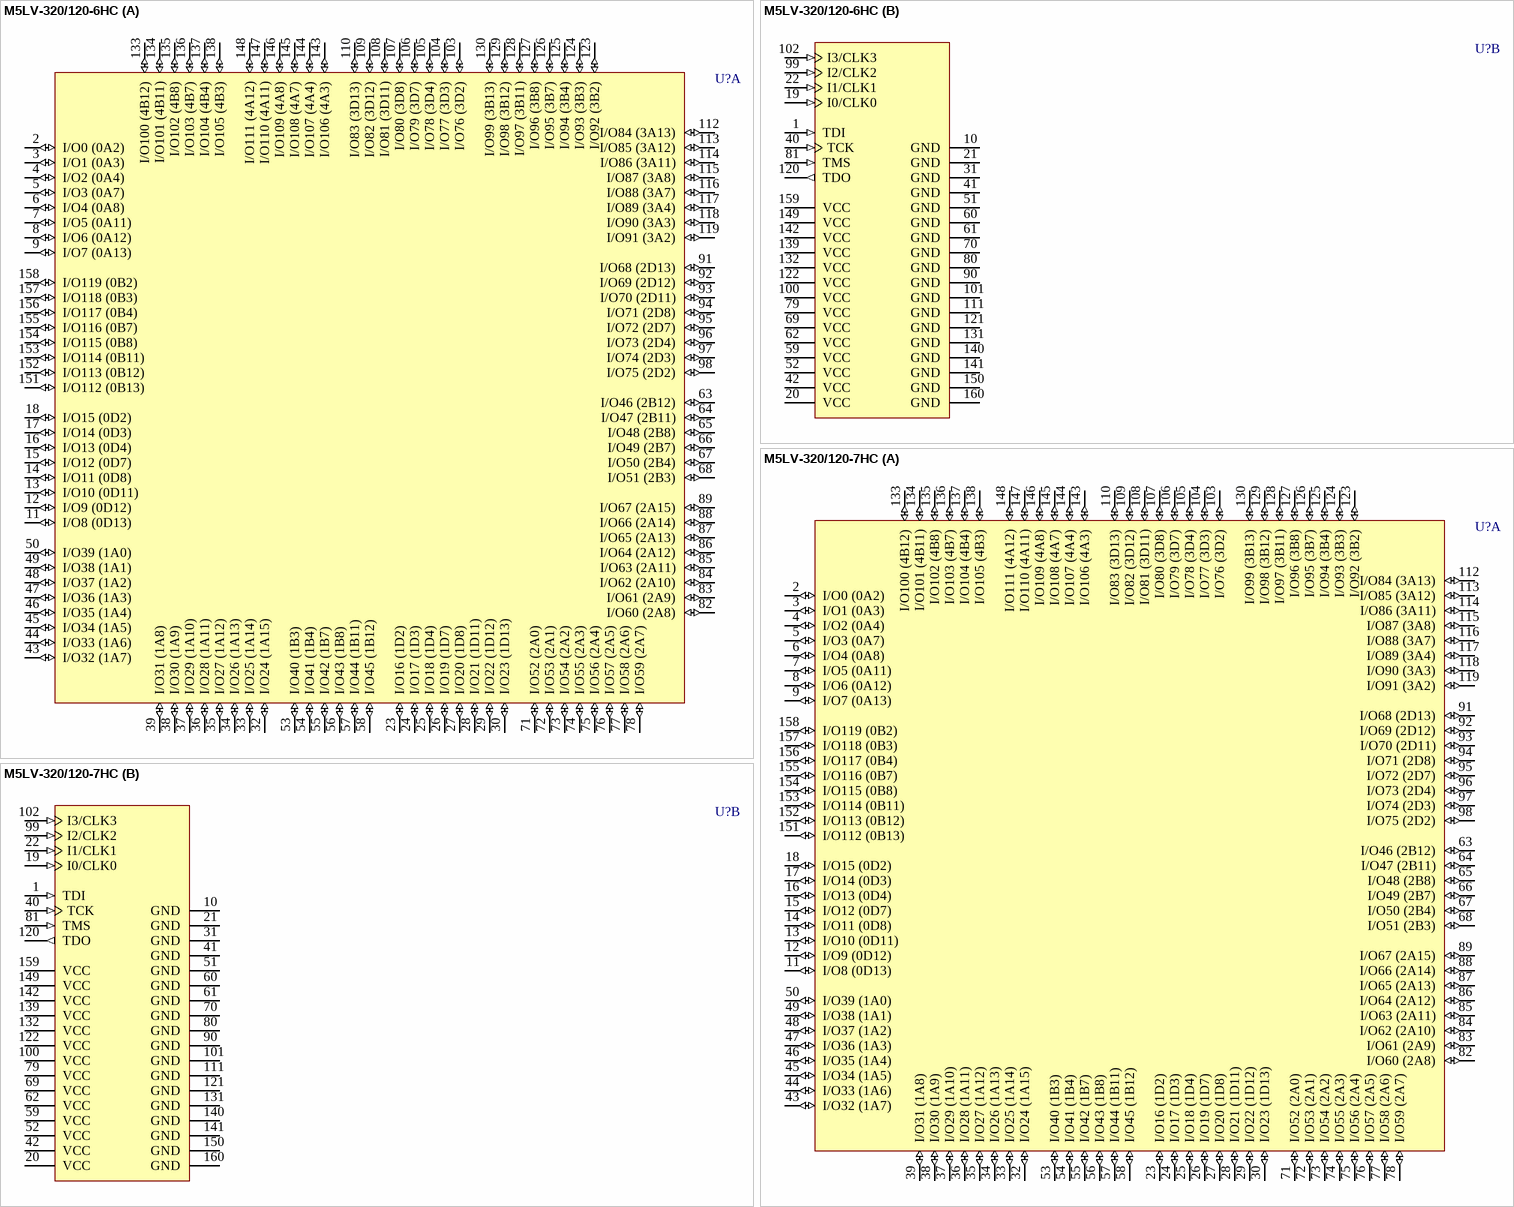
[diagram p199: symbols M5LV-320/120-6HC to M5LV-320/120-7HC]